# Altium schematic symbol library BKIT4U_LIB.SchLib: 368 symbols (part 2 of 3)
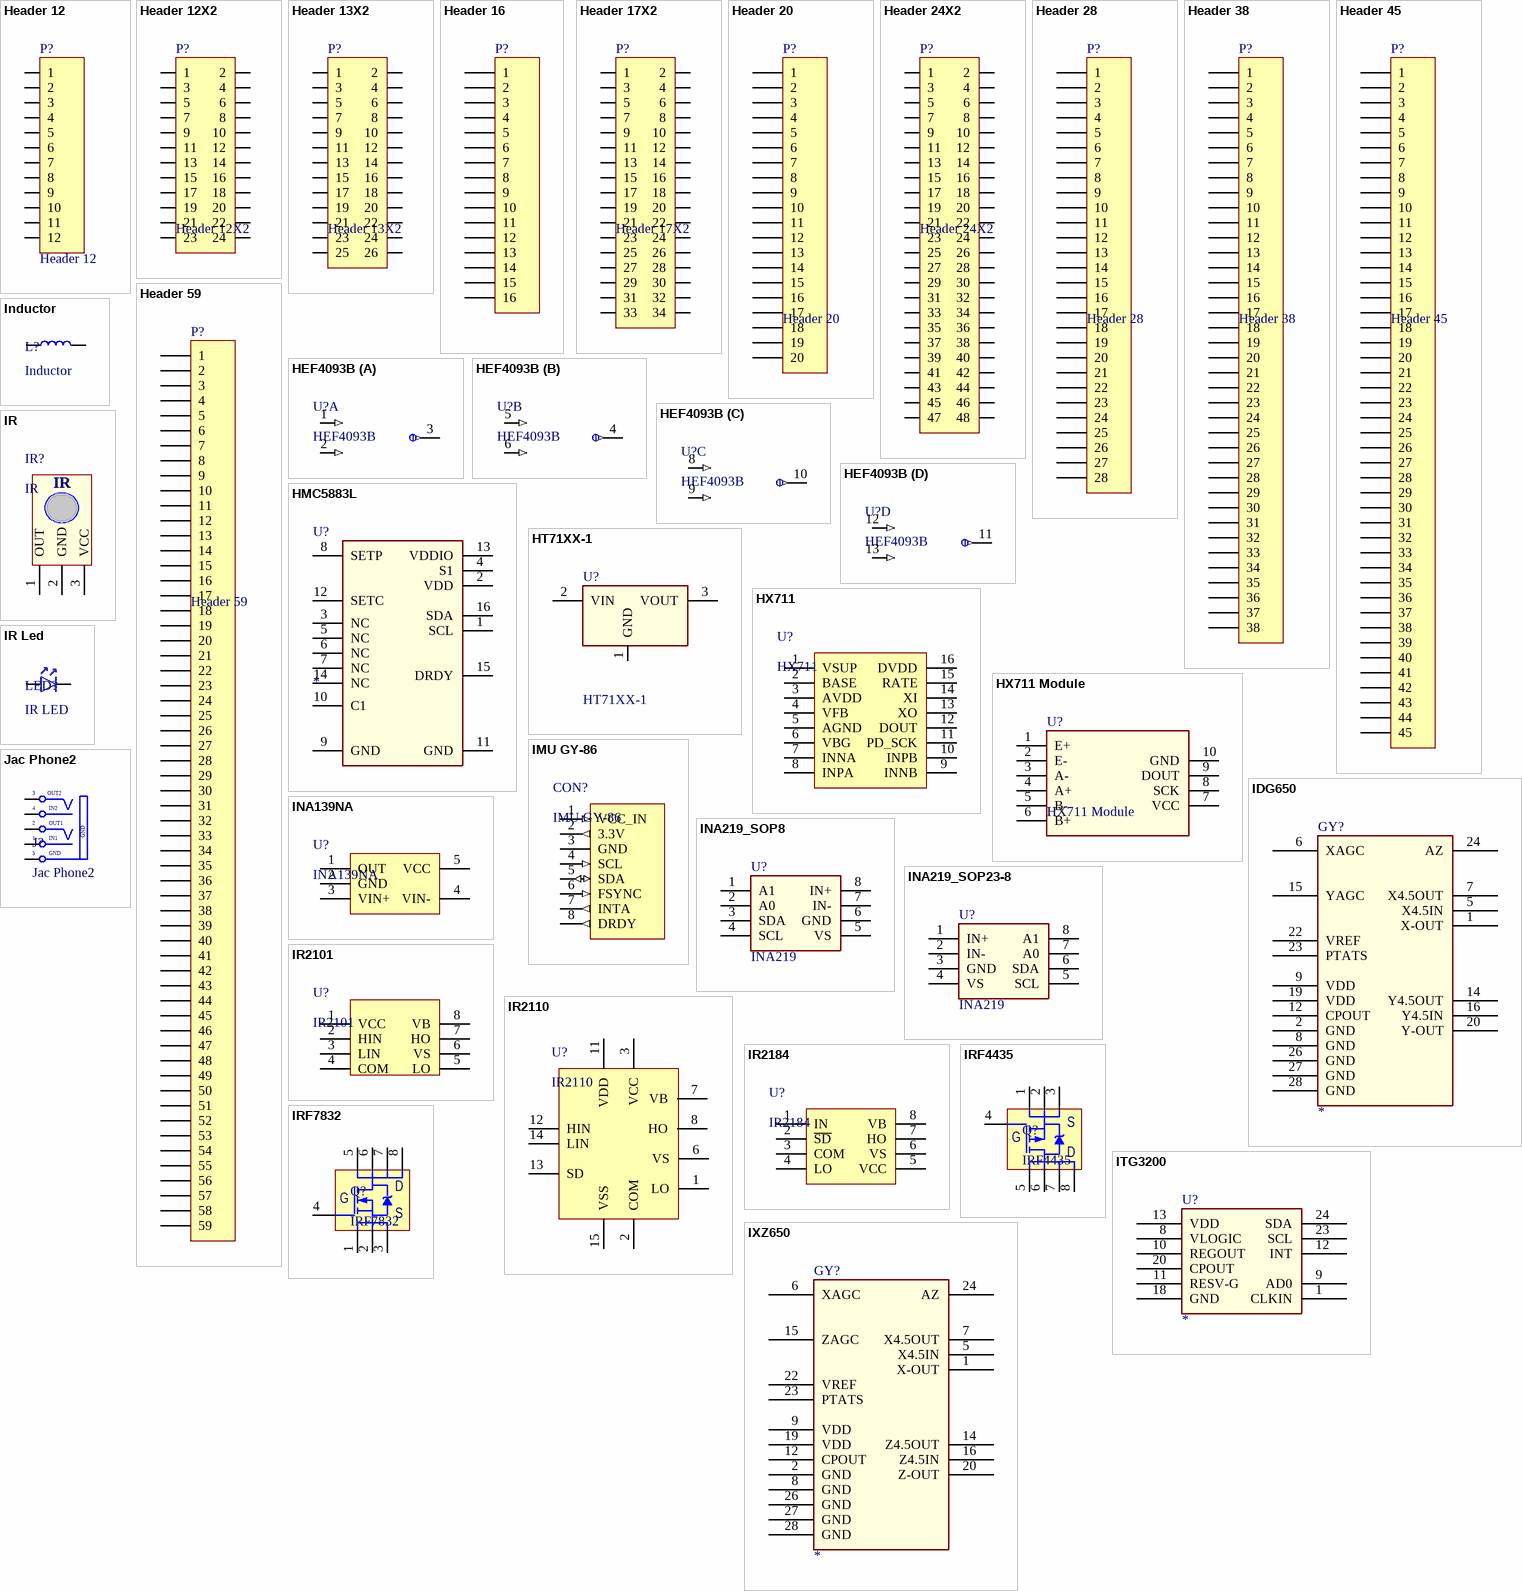
[diagram p18: symbols Header 12 to Jac Phone2]

## IR Led
designator LED?, comment IR LED
Published: 8-Jun-2000; LatestRevisionDate: 17-Jul-2002; LatestRevisionNote: Re-released for DXP Platform.; PackageReference: AXIAL-0.3; Publisher: Altium Limited
footprint LED 3MM
footprint LED 5MM
pins: 1 A, 2 K

## IRF4435
designator Q?
MOSFET P-CHANEL
footprint SOIC-8 (SOIC, 8-Leads, Body 5.0x4.0mm (max), Pitch 1.27mm, IPC Medium Density)
pins: 1 S, 2 S, 3 S, 4 G, 5 D, 6 D, 7 D, 8 D

## IRF7832
designator Q?
MOSFET N-CHANEL
footprint SOIC-8 (SOIC, 8-Leads, Body 5.0x4.0mm (max), Pitch 1.27mm, IPC Medium Density)
pins: 1 S, 2 S, 3 S, 4 G, 5 D, 6 D, 7 D, 8 D

## ITG3200
designator U?
pins: 1 CLKIN, 8 VLOGIC (power), 9 AD0, 10 REGOUT, 11 RESV-G, 12 INT, 13 VDD (power), 18 GND (power), 20 CPOUT, 23 SCL, 24 SDA

## IXZ650
designator GY?
pins: 1 X-OUT, 2 GND (power), 5 X4.5IN, 6 XAGC, 7 X4.5OUT, 8 GND (power), 9 VDD (power), 12 CPOUT, 14 Z4.5OUT, 15 ZAGC, 16 Z4.5IN, 19 VDD (power), 20 Z-OUT, 22 VREF, 23 PTATS, 24 AZ, 26 GND (power), 27 GND (power), 28 GND (power)

## Jac Phone2
designator J?
Jac Phone Stereo; Creat by: VanDungEvn@Gmail.com
footprint JacPhone2 (Jac Phone Stereo)
footprint JAC_PHONE2 (Jac Phone Stereo)
pins: 1 S1 (power) "Sleeve (Ground)", 2 S1 "Tip Normal (Break Contact)", 3 TN "Tip Normal (Break Contact)", 4 S (power) "Sleeve (Ground)", 5 GND "Tip"
text: OUT2; IN2; OUT1; IN1

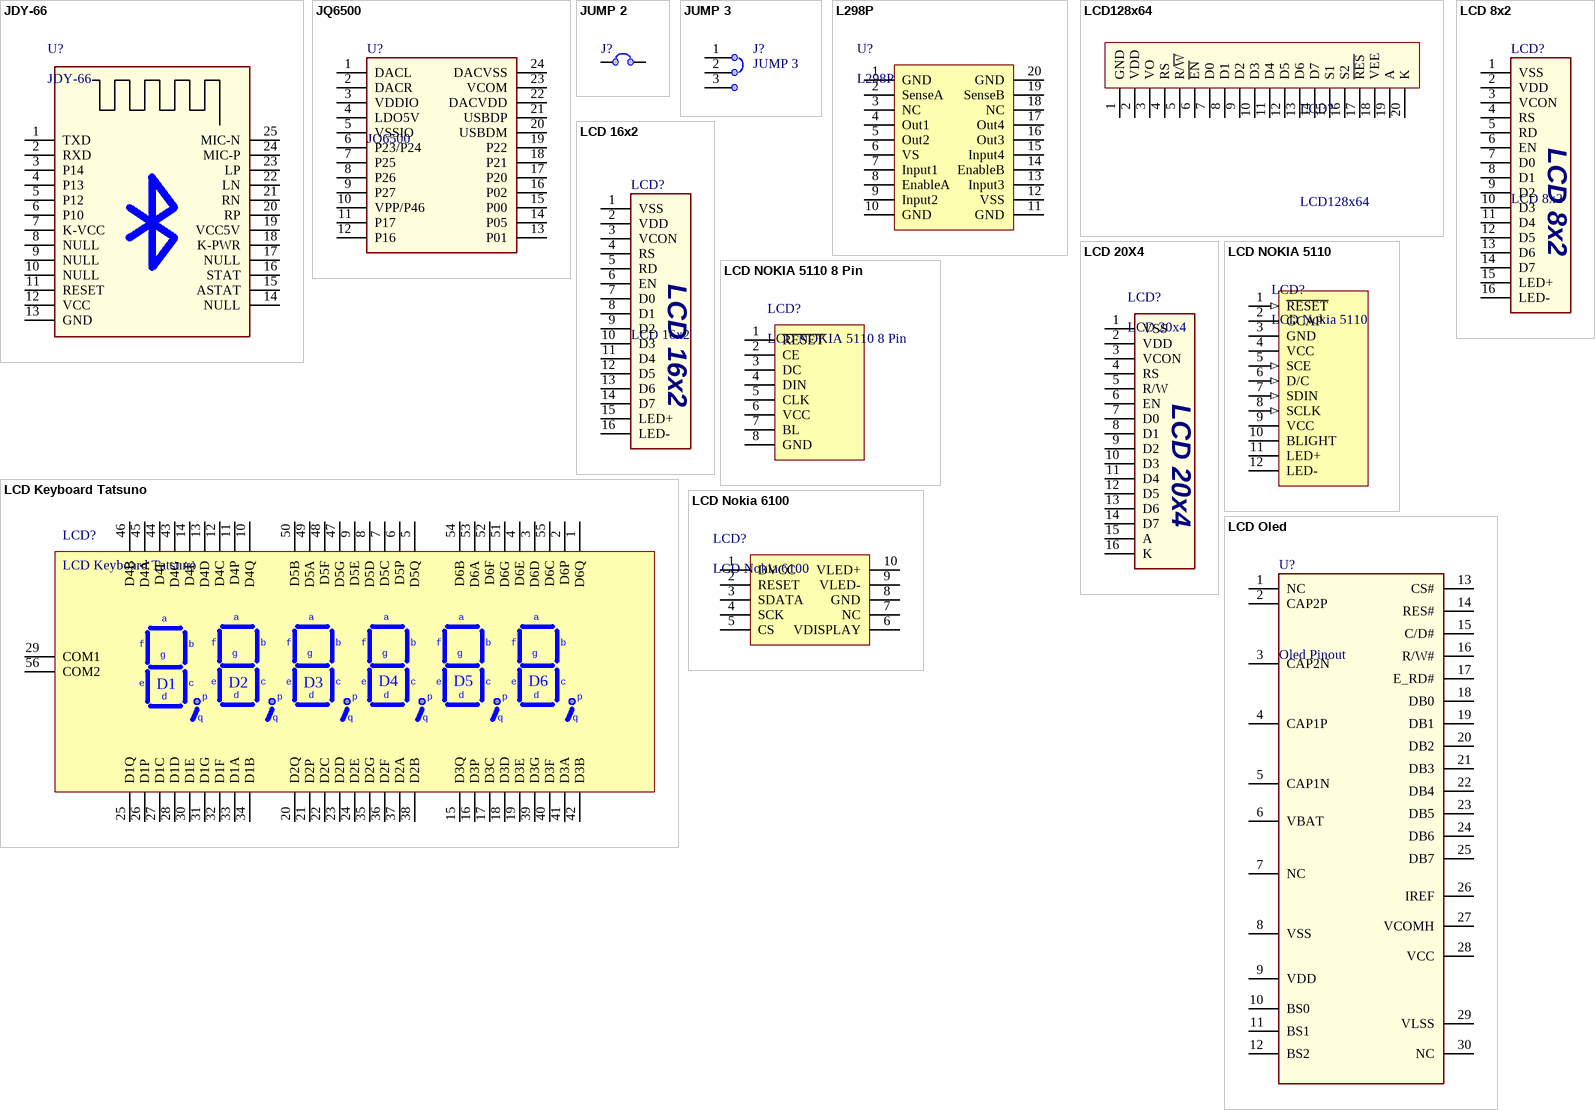
[diagram p6: symbols JDY-66 to LCD Oled]

## JDY-66
designator U?
Audio + digital transmission dual mode Bluetooth module
footprint JDY-66 (Audio + digital transmission dual mode Bluetooth module)
pins: 1 TXD, 2 RXD, 3 P14, 4 P13, 5 P12, 6 P10, 7 K-VCC, 8 NULL, 9 NULL, 10 NULL, 11 RESET, 12 VCC, 13 GND, 14 NULL, 15 ASTAT, 16 STAT, 17 NULL, 18 K-PWR, 19 VCC5V, 20 RP, 21 RN, 22 LN, 23 LP, 24 MIC-P, 25 MIC-N

## JQ6500
designator U?
DSP
footprint SSOP-24
pins: 1 DACL, 2 DACR, 3 VDDIO, 4 LDO5V, 5 VSSIO, 6 P23/P24, 7 P25, 8 P26, 9 P27, 10 VPP/P46, 11 P17, 12 P16, 13 P01, 14 P05, 15 P00, 16 P02, 17 P20, 18 P21, 19 P22, 20 USBDM, 21 USBDP, 22 DACVDD, 23 VCOM, 24 DACVSS

## JUMP 2
designator J?  (value not drawn)
footprint JUMP2 SMD
footprint Header 2
footprint CP (Connecting Plug)
pins: 1, 2

## JUMP 3
designator J?
footprint Header 3
footprint JUMP3 SMD
pins: 1, 2, 3

## L298P
designator U?
Dual Full-Bridge driver
footprint PowerSO20 (SOIC, 20-Leads, Body 16.0x11.1mm (max), Pitch 1.27mm, IPC Low Density)
pins: 1 GND, 2 SenseA, 3 NC, 4 Out1, 5 Out2, 6 VS, 7 Input1, 8 EnableA, 9 Input2, 10 GND, 11 GND, 12 VSS, 13 Input3, 14 EnableB, 15 Input4, 16 Out3, 17 Out4, 18 NC, 19 SenseB, 20 GND

## LCD128x64
designator LCD?
LCD Graphic 128x64; Value: LCD 128x64
footprint LCD128x64
pins: 1 GND, 2 VDD, 3 VO, 4 RS, 5 R/~{W}, 6 ~{EN}, 7 D0, 8 D1, 9 D2, 10 D3, 11 D4, 12 D5, 13 D6, 14 D7, 15 S1, 16 S2, 17 ~{RES}, 18 VEE, 19 A, 20 K

## LCD 8x2
designator LCD?
Character LCD 8x2
footprint LCD 8x2
pins: 1 VSS, 2 VDD, 3 VCON, 4 RS, 5 RD, 6 EN, 7 D0, 8 D1, 9 D2, 10 D3, 11 D4, 12 D5, 13 D6, 14 D7, 15 LED+, 16 LED-

## LCD 16x2
designator LCD?
Character LCD 16x2
footprint LCD 16x2
pins: 1 VSS, 2 VDD, 3 VCON, 4 RS, 5 RD, 6 EN, 7 D0, 8 D1, 9 D2, 10 D3, 11 D4, 12 D5, 13 D6, 14 D7, 15 LED+, 16 LED-

## LCD 20X4
designator LCD?, comment LCD 20x4
footprint LCD 20x4
pins: 1 VSS, 2 VDD, 3 VCON, 4 RS, 5 R/W, 6 EN, 7 D0, 8 D1, 9 D2, 10 D3, 11 D4, 12 D5, 13 D6, 14 D7, 15 A, 16 K

## LCD Keyboard Tatsuno
designator LCD?
footprint LCD 56-PIN
pins: 1 D6Q, 2 D6P, 3 D6D, 4 D6E, 5 D5Q, 6 D5P, 7 D5C, 8 D5D, 9 D5E, 10 D4Q, 11 D4P, 12 D4C, 13 D4D, 14 D4E, 15 D3Q, 16 D3P, 17 D3C, 18 D3D, 19 D3E, 20 D2Q, 21 D2P, 22 D2C, 23 D2D, 24 D2E, 25 D1Q, 26 D1P, 27 D1C, 28 D1D, 29 COM1, 30 D1E, 31 D1G, 32 D1F, 33 D1A, 34 D1B, 35 D2G, 36 D2F, 37 D2A, 38 D2B, 39 D3G, 40 D3F, 41 D3A, 42 D3B, 43 D4G, 44 D4F, 45 D4A, 46 D4B, 47 D5G, 48 D5F, 49 D5A, 50 D5B, 51 D6G, 52 D6F, 53 D6A, 54 D6B, 55 D6C, 56 COM2
text: a; f; b; g; e; c; D1; D2; D3; D4; D5; D6; d; p; q

## LCD NOKIA 5110
designator LCD?, comment LCD Nokia 5110
footprint LCD NOLIA 5110 SMD (BORDER)
footprint LCD NOLIA 5110 DIP (BORDER)
pins: 1 ~{RESET} (in), 2 GCAP, 3 GND, 4 VCC, 5 SCE (in), 6 D/C (in), 7 SDIN (in), 8 SCLK (in), 9 VCC, 10 BLIGHT, 11 LED+, 12 LED-

## LCD NOKIA 5110 8 Pin
designator LCD?
footprint LCD NOLIA 5110 DIP (BORDER)
pins: 1 ~{RESET}, 2 CE, 3 DC, 4 DIN, 5 CLK, 6 VCC, 7 BL, 8 GND

## LCD Nokia 6100
designator LCD?
footprint LCD NOKIA 6100
pins: 1 DVCC, 2 RESET, 3 SDATA, 4 SCK, 5 CS, 6 VDISPLAY, 7 NC, 8 GND, 9 VLED-, 10 VLED+

## LCD Oled
designator U?, comment Oled Pinout
LCD Oled
footprint OLED PINOUT
pins: 1 NC, 2 CAP2P, 3 CAP2N, 4 CAP1P, 5 CAP1N, 6 VBAT, 7 NC, 8 VSS, 9 VDD, 10 BS0, 11 BS1, 12 BS2, 13 CS#, 14 RES#, 15 C/D#, 16 R/W#, 17 E_RD#, 18 DB0, 19 DB1, 20 DB2, 21 DB3, 22 DB4, 23 DB5, 24 DB6, 25 DB7, 26 IREF, 27 VCOMH, 28 VCC, 29 VLSS, 30 NC

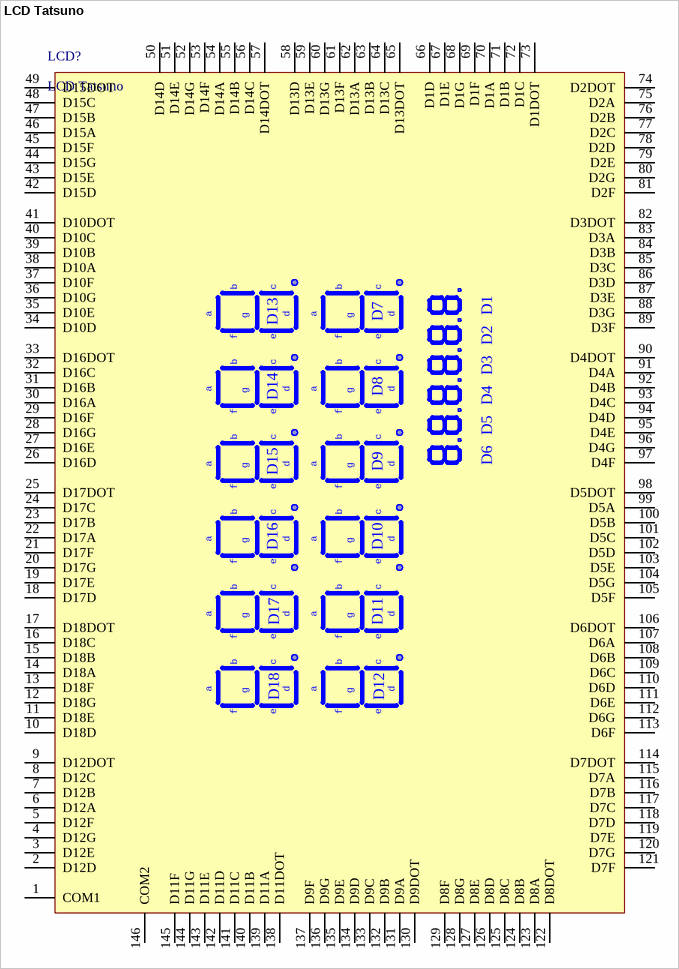
[diagram p7: symbol LCD Tatsuno]

## LCD Tatsuno
designator LCD?
footprint LCD 146-PIN
pins: 1 COM1, 2 D12D, 3 D12E, 4 D12G, 5 D12F, 6 D12A, 7 D12B, 8 D12C, 9 D12DOT, 10 D18D, 11 D18E, 12 D18G, 13 D18F, 14 D18A, 15 D18B, 16 D18C, 17 D18DOT, 18 D17D, 19 D17E, 20 D17G, 21 D17F, 22 D17A, 23 D17B, 24 D17C, 25 D17DOT, 26 D16D, 27 D16E, 28 D16G, 29 D16F, 30 D16A, 31 D16B, 32 D16C, 33 D16DOT, 34 D10D, 35 D10E, 36 D10G, 37 D10F, 38 D10A, 39 D10B, 40 D10C, 41 D10DOT, 42 D15D, 43 D15E, 44 D15G, 45 D15F, 46 D15A, 47 D15B, 48 D15C, 49 D15DOT, 50 D14D, 51 D14E, 52 D14G, 53 D14F, 54 D14A, 55 D14B, 56 D14C, 57 D14DOT, 58 D13D, 59 D13E, 60 D13G, 61 D13F, 62 D13A, 63 D13B, 64 D13C, 65 D13DOT, 66 D1D, 67 D1E, 68 D1G, 69 D1F, 70 D1A, 71 D1B, 72 D1C, 73 D1DOT, 74 D2DOT, 75 D2A, 76 D2B, 77 D2C, 78 D2D, 79 D2E, 80 D2G, 81 D2F, 82 D3DOT, 83 D3A, 84 D3B, 85 D3C, 86 D3D, 87 D3E, 88 D3G, 89 D3F, 90 D4DOT, 91 D4A, 92 D4B, 93 D4C, 94 D4D, 95 D4E, 96 D4G, 97 D4F, 98 D5DOT, 99 D5A, 100 D5B, 101 D5C, 102 D5D, 103 D5E, 104 D5G, 105 D5F, 106 D6DOT, 107 D6A, 108 D6B, 109 D6C, 110 D6D, 111 D6E, 112 D6G, 113 D6F, 114 D7DOT, 115 D7A, 116 D7B, 117 D7C, 118 D7D, 119 D7E, 120 D7G, 121 D7F, 122 D8DOT, 123 D8A, 124 D8B, 125 D8C, 126 D8D, 127 D8E, 128 D8G, 129 D8F, 130 D9DOT, 131 D9A, 132 D9B, 133 D9C, 134 D9D, 135 D9E, 136 D9G, 137 D9F, 138 D11DOT, 139 D11A, 140 D11B, 141 D11C, 142 D11D, 143 D11E, 144 D11G, 145 D11F, 146 COM2
text: b; c; D1; D13; D7; a; g; d; D2; f; e; D3; D14; D8; D4; D5; D6; D15; D9; D16; D10; D17; D11; D18; D12

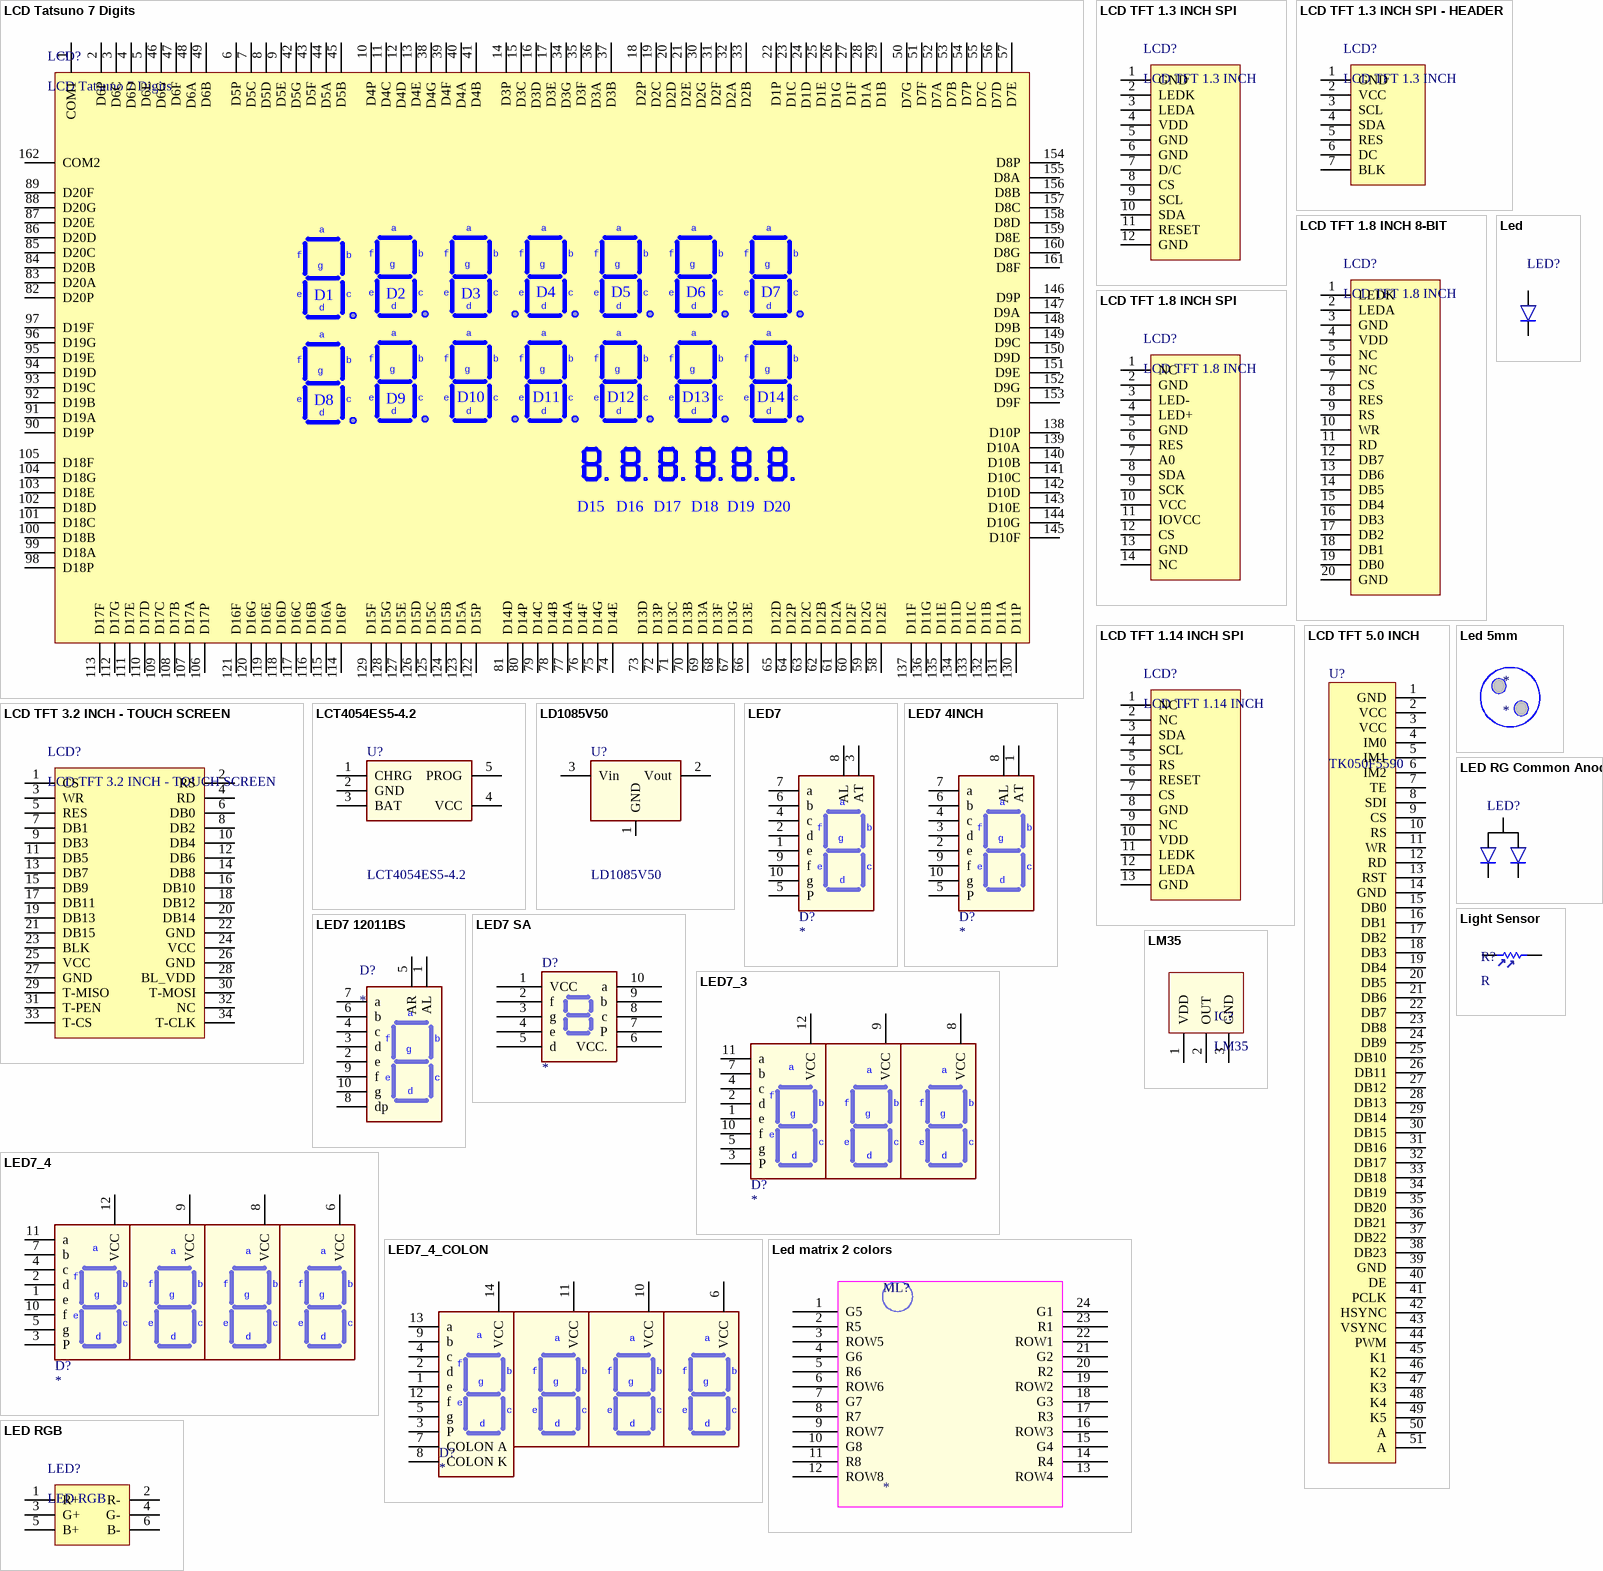
[diagram p8: symbols LCD Tatsuno 7 Digits to LM35]

## LCD Tatsuno 7 Digits
designator LCD?
footprint LCD 162-PIN
pins: 1 COM1, 2 D6P, 3 D6C, 4 D6D, 5 D6E, 6 D5P, 7 D5C, 8 D5D, 9 D5E, 10 D4P, 11 D4C, 12 D4D, 13 D4E, 14 D3P, 15 D3C, 16 D3D, 17 D3E, 18 D2P, 19 D2C, 20 D2D, 21 D2E, 22 D1P, 23 D1C, 24 D1D, 25 D1E, 26 D1G, 27 D1F, 28 D1A, 29 D1B, 30 D2G, 31 D2F, 32 D2A, 33 D2B, 34 D3G, 35 D3F, 36 D3A, 37 D3B, 38 D4G, 39 D4F, 40 D4A, 41 D4B, 42 D5G, 43 D5F, 44 D5A, 45 D5B, 46 D6G, 47 D6F, 48 D6A, 49 D6B, 50 D7G, 51 D7F, 52 D7A, 53 D7B, 54 D7P, 55 D7C, 56 D7D, 57 D7E, 58 D12E, 59 D12G, 60 D12F, 61 D12A, 62 D12B, 63 D12C, 64 D12P, 65 D12D, 66 D13E, 67 D13G, 68 D13F, 69 D13A, 70 D13B, 71 D13C, 72 D13P, 73 D13D, 74 D14E, 75 D14G, 76 D14F, 77 D14A, 78 D14B, 79 D14C, 80 D14P, 81 D14D, 82 D20P, 83 D20A, 84 D20B, 85 D20C, 86 D20D, 87 D20E, 88 D20G, 89 D20F, 90 D19P, 91 D19A, 92 D19B, 93 D19C, 94 D19D, 95 D19E, 96 D19G, 97 D19F, 98 D18P, 99 D18A, 100 D18B, 101 D18C, 102 D18D, 103 D18E, 104 D18G, 105 D18F, 106 D17P, 107 D17A, 108 D17B, 109 D17C, 110 D17D, 111 D17E, 112 D17G, 113 D17F, 114 D16P, 115 D16A, 116 D16B, 117 D16C, 118 D16D, 119 D16E, 120 D16G, 121 D16F, 122 D15P, 123 D15A, 124 D15B, 125 D15C, 126 D15D, 127 D15E, 128 D15G, 129 D15F, 130 D11P, 131 D11A, 132 D11B, 133 D11C, 134 D11D, 135 D11E, 136 D11G, 137 D11F, 138 D10P, 139 D10A, 140 D10B, 141 D10C, 142 D10D, 143 D10E, 144 D10G, 145 D10F, 146 D9P, 147 D9A, 148 D9B, 149 D9C, 150 D9D, 151 D9E, 152 D9G, 153 D9F, 154 D8P, 155 D8A, 156 D8B, 157 D8C, 158 D8D, 159 D8E, 160 D8G, 161 D8F, 162 COM2
text: a; f; b; g; e; c; D1; D2; D3; D4; D5; D6; D7; d; D8; D9; D10; D11; D12; D13; D14; D15; D16; D17; D18; D19; D20

## LCD TFT 1.3 INCH SPI
designator LCD?, comment LCD TFT 1.3 INCH
footprint LCD TFT 1.3 INCH SPI
pins: 1 GND, 2 LEDK, 3 LEDA, 4 VDD, 5 GND, 6 GND, 7 D/C, 8 CS, 9 SCL, 10 SDA, 11 RESET, 12 GND

## LCD TFT 1.3 INCH SPI - HEADER
designator LCD?, comment LCD TFT 1.3 INCH
footprint LCD TFT 1.3 INCH SPI - HEADER
pins: 1 GND, 2 VCC, 3 SCL, 4 SDA, 5 RES, 6 DC, 7 BLK

## LCD TFT 1.8 INCH 8-BIT
designator LCD?, comment LCD TFT 1.8 INCH
footprint LCD TFT 1.8 INCH 8-BIT INTERFACE
pins: 1 LEDK, 2 LEDA, 3 GND, 4 VDD, 5 NC, 6 NC, 7 CS, 8 RES, 9 RS, 10 WR, 11 RD, 12 DB7, 13 DB6, 14 DB5, 15 DB4, 16 DB3, 17 DB2, 18 DB1, 19 DB0, 20 GND

## LCD TFT 1.8 INCH SPI
designator LCD?, comment LCD TFT 1.8 INCH
footprint LCD TFT 1.8 INCH SPI WITH FPC CABLE
footprint LCD TFT 1.8 INCH SPI
pins: 1 NC, 2 GND, 3 LED-, 4 LED+, 5 GND, 6 RES, 7 A0, 8 SDA, 9 SCK, 10 VCC, 11 IOVCC, 12 CS, 13 GND, 14 NC

## LCD TFT 1.14 INCH SPI
designator LCD?, comment LCD TFT 1.14 INCH
footprint LCD TFT 1.14 INCH SPI
pins: 1 NC, 2 NC, 3 SDA, 4 SCL, 5 RS, 6 RESET, 7 CS, 8 GND, 9 NC, 10 VDD, 11 LEDK, 12 LEDA, 13 GND

## LCD TFT 3.2 INCH - TOUCH SCREEN
designator LCD?
footprint LCD TFT 3.2 INCH - TOUCH SCREEN
pins: 1 CS, 2 RS, 3 WR, 4 RD, 5 RES, 6 DB0, 7 DB1, 8 DB2, 9 DB3, 10 DB4, 11 DB5, 12 DB6, 13 DB7, 14 DB8, 15 DB9, 16 DB10, 17 DB11, 18 DB12, 19 DB13, 20 DB14, 21 DB15, 22 GND, 23 BLK, 24 VCC, 25 VCC, 26 GND, 27 GND, 28 BL_VDD, 29 T-MISO, 30 T-MOSI, 31 T-PEN, 32 NC, 33 T-CS, 34 T-CLK

## LCD TFT 5.0 INCH
designator U?, comment TK050F5590
TK050F5590 5inch TFT LCD
footprint FH26W-51S-0.3SHW
pins: 1 GND, 2 VCC, 3 VCC, 4 IM0, 5 IM1, 6 IM2, 7 TE, 8 SDI, 9 CS, 10 RS, 11 WR, 12 RD, 13 RST, 14 GND, 15 DB0, 16 DB1, 17 DB2, 18 DB3, 19 DB4, 20 DB5, 21 DB6, 22 DB7, 23 DB8, 24 DB9, 25 DB10, 26 DB11, 27 DB12, 28 DB13, 29 DB14, 30 DB15, 31 DB16, 32 DB17, 33 DB18, 34 DB19, 35 DB20, 36 DB21, 37 DB22, 38 DB23, 39 GND, 40 DE, 41 PCLK, 42 HSYNC, 43 VSYNC, 44 PWM, 45 K1, 46 K2, 47 K3, 48 K4, 49 K5, 50 A, 51 A

## LCT4054ES5-4.2
designator U?
footprint SOT-23-5 (SOT23, 5-Leads, Body 3.0x3.0mm (max), Pitch 0.95mm, IPC Medium Density)
pins: 1 CHRG, 2 GND, 3 BAT, 4 VCC, 5 PROG

## LD1085V50
designator U?
LDO 3A low drop positive voltage regulator
footprint TO-220
pins: 1 GND, 2 Vout, 3 Vin (power)

## Led
designator LED?
Typical LED
footprint Led SMD 0805 (Molded Diode, 2-Leads, Body 2.0x1.3mm, IPC Medium Density)
footprint LED 5MM
footprint LED 3MM
footprint Led SMD 0603
pins: 1 A, 2 K

## LED7
designator D?
footprint LED7 CA
pins: 1 e, 2 d, 3 AT, 4 c, 5 P, 6 b, 7 a, 8 AL, 9 f, 10 g

## LED7 4INCH
designator D?
footprint LED7 4INCH (Footprint not found)
pins: 1 AT, 2 e, 3 d, 4 c, 5 P, 6 b, 7 a, 8 AL, 9 f, 10 g

## LED7 12011BS
designator D?
footprint LED7 GNS-12011
pins: 1 AL, 2 e, 3 d, 4 c, 5 AR, 6 b, 7 a, 8 dp, 9 f, 10 g

## LED7 SA
designator D?
pins: 1 VCC, 2 f, 3 g, 4 e, 5 d, 6 VCC., 7 P, 8 c, 9 b, 10 a

## LED7_3
designator D?
footprint LED7_3 CA 0.56
footprint LED7_3 CA 0.36
pins: 1 e, 2 d, 3 P, 4 c, 5 g, 7 b, 8 VCC, 9 VCC, 10 f, 11 a, 12 VCC

## LED7_4
designator D?
footprint LED7_4 CA
pins: 1 e, 2 d, 3 P, 4 c, 5 g, 6 VCC, 7 b, 8 VCC, 9 VCC, 10 f, 11 a, 12 VCC

## LED7_4_COLON
designator D?
footprint LED7_4 CA - COLON
pins: 1 e, 2 d, 3 P, 4 c, 5 g, 6 VCC, 7 COLON A, 8 COLON K, 9 b, 10 VCC, 11 VCC, 12 f, 13 a, 14 VCC

## Led 5mm
designator *

## Led matrix 2 colors
designator ML?
pins: 1 G5, 2 R5, 3 ROW5, 4 G6, 5 R6, 6 ROW6, 7 G7, 8 R7, 9 ROW7, 10 G8, 11 R8, 12 ROW8, 13 ROW4, 14 R4, 15 G4, 16 ROW3, 17 R3, 18 G3, 19 ROW2, 20 R2, 21 G2, 22 ROW1, 23 R1, 24 G1

## LED RG Common Anode
designator LED?
Typical LED
footprint LED RG 3MM
pins: 1 RED, 2 Common, 3 Green

## LED RGB
designator LED?
footprint LED SMD 5050
pins: 1 R+, 2 R-, 3 G+, 4 G-, 5 B+, 6 B-

## Light Sensor
designator R?, comment R
Resistor; Published: 8-Jun-2000; LatestRevisionDate: 17-Jul-2002; LatestRevisionNote: Re-released for DXP Platform.; PackageReference: AXIAL-0.3; Publisher: Altium Limited
footprint R PHOTO LARGE
footprint R PHOTO SMALL
pins: 1, 2

## LM35
designator IC?
High Precision  1-Wire® Digital Thermometer
footprint TO-92
pins: 1 VDD, 2 OUT, 3 GND

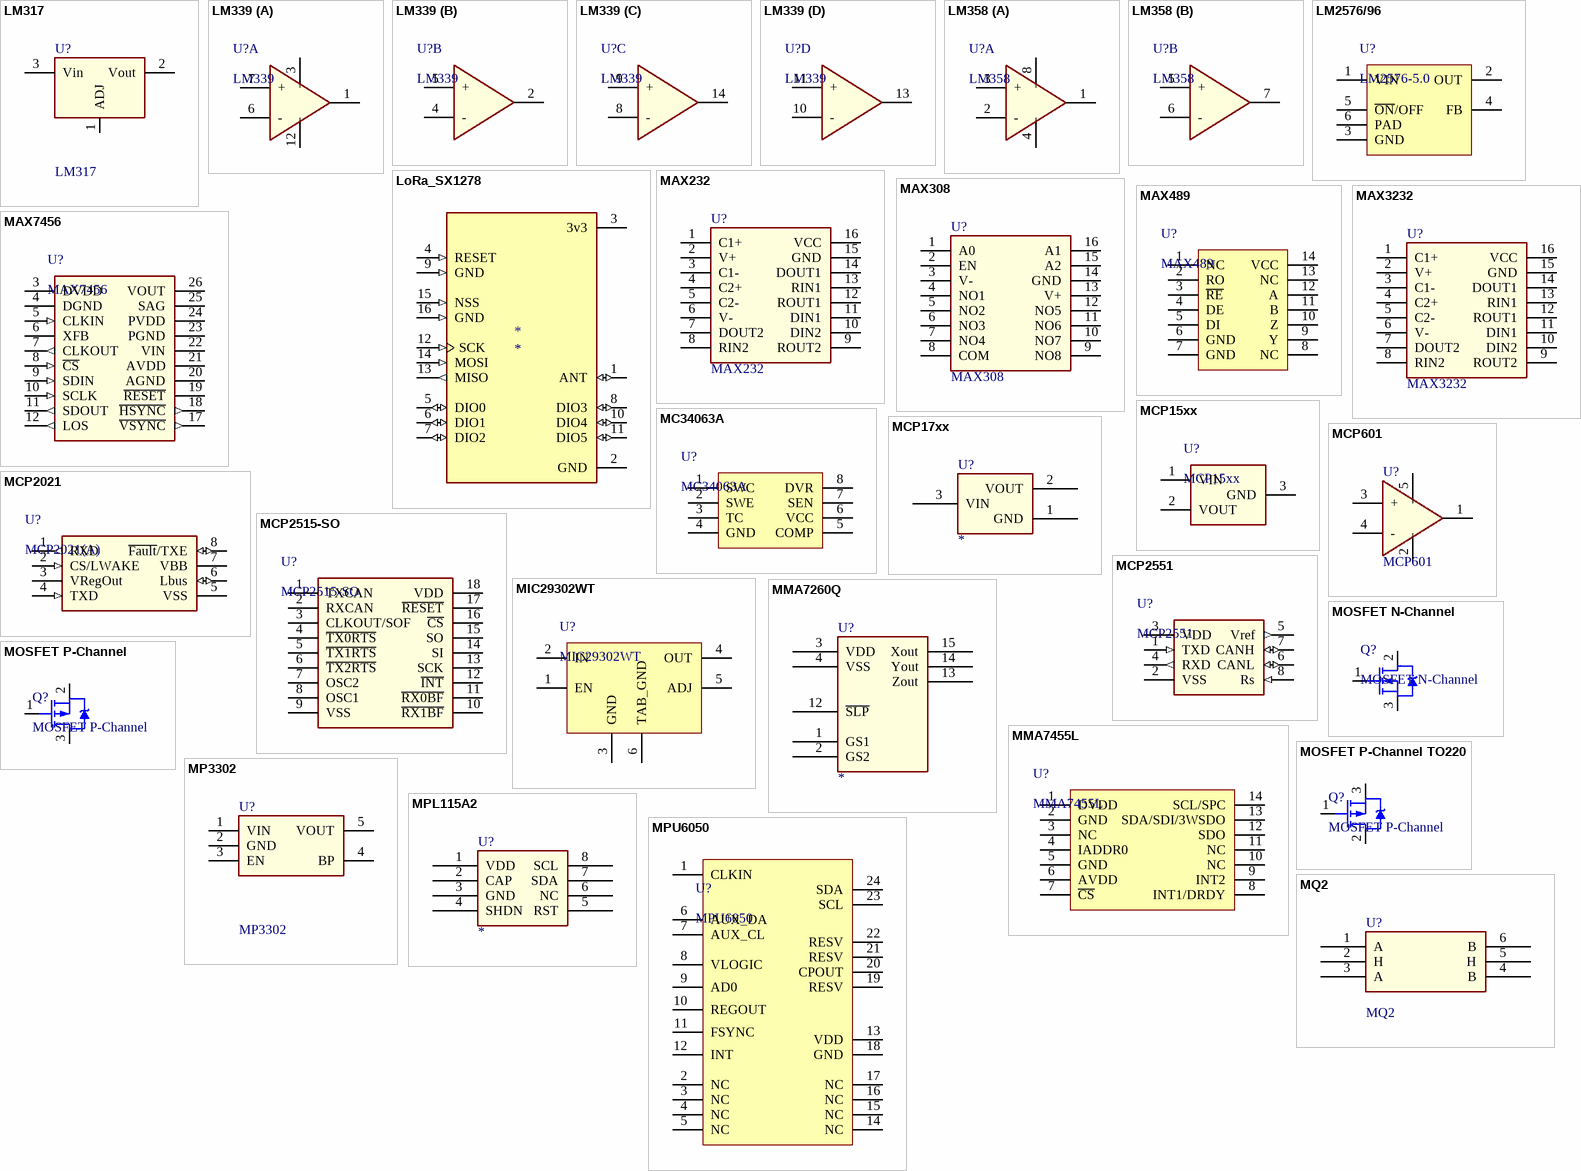
[diagram p9: symbols LM317 to MQ2]

## LM317
designator U?
LDO Fixed Voltage regulator
footprint TO-92
footprint TO-220
footprint TO-252 (DPAK) (D-PAK, 3-Pads, Body 6.2x6.7mm (max), IPC Medium Density)
pins: 1 ADJ, 2 Vout, 3 Vin (power)

## LM339
designator U?
Low Power Dual Operational Amplifiers
footprint DIP 14
footprint SOIC-14 (SOIC, 14-Leads, Body 8.6x3.9mm (max), Pitch 1.27mm, IPC Medium Density)
part A pins: 1 Out1, 3 VCC, 6 -, 7 +, 12 GND
part B pins: 2 Out2, 4 -, 5 +
part C pins: 8 -, 9 +, 14 Out3
part D pins: 10 -, 11 +, 13 Out3

## LM358
designator U?
Low Power Dual Operational Amplifiers
footprint DIP 8 (DIP IC (2.54mm), 8 pins)
footprint SOIC-8 (SOIC, 8-Leads, Body 5.0x4.0mm (max), Pitch 1.27mm, IPC Medium Density)
part A pins: 1 OutA, 2 -, 3 +, 4 GND, 8 VCC
part B pins: 5 +, 6 -, 7 OutA

## LM2576/96
designator U?, comment LM2576-5.0
SIMPLE SWITCHER® 3A Step-Down Voltage Regulator
footprint TO-263-5 (D2-PAK, 6-Pads, Body 8.9x10.4mm (max), IPC Medium Density)
pins: 1 VIN, 2 OUT, 3 GND, 4 FB, 5 ~{ON}/OFF, 6 GND hidden to GND, 6 PAD

## LoRa_SX1278
designator *
footprint SMD16 (LoRa Ra-02 module)
pins: 1 ANT (io), 2 GND (power), 3 3v3 (power), 4 RESET (in), 5 DIO0 (io), 6 DIO1 (io), 7 DIO2 (io), 8 DIO3 (io), 9 GND (in), 10 DIO4 (io), 11 DIO5 (io), 12 SCK (in), 13 MISO (out), 14 MOSI (in), 15 NSS (in), 16 GND (in)

## MAX232
designator U?
RS-232 Line Driver/Receiver
footprint SOIC-16 (SOIC, 16-Leads, Body 10.0x4.0mm (max), Pitch 1.27mm, IPC Medium Density)
pins: 1 C1+, 2 V+, 3 C1-, 4 C2+, 5 C2-, 6 V-, 7 DOUT2, 8 RIN2, 9 ROUT2, 10 DIN2, 11 DIN1, 12 ROUT1, 13 RIN1, 14 DOUT1, 15 GND, 16 VCC

## MAX308
designator U?
8 Channels CMOS Analog Multiplexers
footprint DIP 16
pins: 1 A0, 2 EN, 3 V-, 4 NO1, 5 NO2, 6 NO3, 7 NO4, 8 COM, 9 NO8, 10 NO7, 11 NO6, 12 NO5, 13 V+, 14 GND, 15 A2, 16 A1

## MAX489
designator U?
Hex inverter
footprint SOIC-14 (SOIC, 14-Leads, Body 8.6x3.9mm (max), Pitch 1.27mm, IPC Medium Density)
pins: 1 NC, 2 RO, 3 ~{RE}, 4 DE, 5 DI, 6 GND, 7 GND, 8 NC, 9 Y, 10 Z, 11 B, 12 A, 13 NC, 14 VCC

## MAX3232
designator U?
3.0V to 5.5V, Low-Power, Up to 1Mbps, / True RS-232 Transceivers
footprint SOIC-16 (SOIC, 16-Leads, Body 10.0x4.0mm (max), Pitch 1.27mm, IPC Medium Density)
pins: 1 C1+, 2 V+, 3 C1-, 4 C2+, 5 C2-, 6 V-, 7 DOUT2, 8 RIN2, 9 ROUT2, 10 DIN2, 11 DIN1, 12 ROUT1, 13 RIN1, 14 DOUT1, 15 GND, 16 VCC

## MAX7456
designator U?
MAXIM's single-channel monochrome On-Screen Display with integrated EEPROM
footprint TSSOP 28 65P EP (TSOP, 28-Leads, Body 9.8x4.5mm (max), Pitch 0.65mm, IPC Medium Density)
pins: 1 NC hidden, 2 NC hidden, 3 DVDD (power), 4 DGND (power), 5 CLKIN (in), 6 XFB, 7 CLKOUT (out), 8 ~{CS} (in), 9 SDIN (in), 10 SCLK (in), 11 SDOUT (out), 12 LOS (out), 13 NC hidden, 13 NC hidden, 14 NC hidden, 14 NC hidden, 15 NC hidden, 15 NC hidden, 16 NC hidden, 16 NC hidden, 17 ~{VSYNC} (out), 18 ~{HSYNC} (out), 19 ~{RESET}, 20 AGND (power), 21 AVDD (power), 22 VIN (power), 23 PGND (power), 24 PVDD (power), 25 SAG, 26 VOUT, 27 NC hidden, 28 NC hidden

## MC34063A
designator U?
1.5A peak Boost/Buck/Inverting switching regulator
footprint SOIC-8 (SOIC, 8-Leads, Body 5.0x4.0mm (max), Pitch 1.27mm, IPC Medium Density)
pins: 1 SWC, 2 SWE, 3 TC, 4 GND, 5 COMP, 6 VCC, 7 SEN, 8 DVR

## MCP15xx
designator U?
footprint SOT-23 (SOT23, 3-Leads, Body 3.0x2.5mm (max), Pitch 0.95mm, IPC Medium Density)
pins: 1 VIN (power), 2 VOUT (power), 3 GND (power)

## MCP17xx
designator U?
footprint SOT-23 (SOT23, 3-Leads, Body 3.0x2.5mm (max), Pitch 0.95mm, IPC Medium Density)
pins: 1 GND (power), 2 VOUT (power), 3 VIN (power)

## MCP601
designator U?
2.7V to 6.0V Single Supply CMOS Op Amps
footprint SOT-23-5 (SOT23, 5-Leads, Body 3.0x3.0mm (max), Pitch 0.95mm, IPC Medium Density)
pins: 1 OutA, 2 GND, 3 +, 4 -, 5 VCC

## MCP2021
designator U?, comment MCP2021(A)
LIN Transceiver with Voltage Regulator
footprint SOIC-8 (SOIC, 8-Leads, Body 5.0x4.0mm (max), Pitch 1.27mm, IPC Medium Density)
pins: 1 RXD (out), 2 CS/LWAKE (in), 3 VRegOut (power), 4 TXD (in), 5 VSS (power), 6 Lbus (io), 7 VBB (power), 8 ~{Fault}/TXE (io)

## MCP2515-SO
designator U?
Stand-Alone CAN Controller with SPI Interface
footprint SOIC-20 (SOIC, 20-Leads, Body 12.8x7.5mm (max), Pitch 1.27mm, IPC Medium Density)
pins: 1 TXCAN, 2 RXCAN, 3 CLKOUT/SOF, 4 ~{TX0RTS}, 5 ~{TX1RTS}, 6 ~{TX2RTS}, 7 OSC2, 8 OSC1, 9 VSS, 10 ~{RX1BF}, 11 ~{RX0BF}, 12 ~{INT}, 13 SCK, 14 SI, 15 SO, 16 ~{CS}, 17 ~{RESET}, 18 VDD

## MCP2551
designator U?
High-Speed CANTransceiver
footprint SOIC-8 (SOIC, 8-Leads, Body 5.0x4.0mm (max), Pitch 1.27mm, IPC Medium Density)
footprint DIP 8 (DIP IC (2.54mm), 8 pins)
pins: 1 TXD (in), 2 VSS (power), 3 VDD (power), 4 RXD (out), 5 Vref (out), 6 CANL (io), 7 CANH (io), 8 Rs (in)

## MIC29302WT
designator U?
3.0A LDO Regulator with ADJ. voltage output
footprint TO-263-5 (D2-PAK, 6-Pads, Body 8.9x10.4mm (max), IPC Medium Density)
pins: 1 EN, 2 IN, 3 GND, 4 OUT, 5 ADJ, 6 TAB_GND

## MMA7260Q
designator U?
pins: 1 GS1, 2 GS2, 3 VDD (power), 4 VSS (power), 12 ~{SLP}, 13 Zout, 14 Yout, 15 Xout

## MMA7455L
designator U?
±2g/±4g/±8g Three Axis Low-g Digital Output Accelerometer
footprint LGA-14 (LCC, 14-Pins, Body 3.0x5.0mm (max), Pitch 0.80mm, IPC Medium Density)
pins: 1 DVDD, 2 GND, 3 NC, 4 IADDR0, 5 GND, 6 AVDD, 7 ~{CS}, 8 INT1/DRDY, 9 INT2, 10 NC, 11 NC, 12 SDO, 13 SDA/SDI/3WSDO, 14 SCL/SPC

## MOSFET N-Channel
designator Q?
footprint SOT-23 (SOT23, 3-Leads, Body 3.0x2.5mm (max), Pitch 0.95mm, IPC Medium Density)
footprint TO-220
footprint SOIC-8 (SOIC, 8-Leads, Body 5.0x4.0mm (max), Pitch 1.27mm, IPC Medium Density); pin to pad 1>4 3>5+6+7+8
footprint TO-220/HeatSink
footprint TO-252 (DPAK) (D-PAK, 3-Pads, Body 6.2x6.7mm (max), IPC Medium Density)
footprint TO-263 (D2PAK)
pins: 1 G, 2 D, 3 S

## MOSFET P-Channel
designator Q?
footprint TO-220; pin to pad 2>3 3>2
footprint TO-220/HeatSink; pin to pad 2>3 3>2
footprint SOIC-8 (SOIC, 8-Leads, Body 5.0x4.0mm (max), Pitch 1.27mm, IPC Medium Density); pin to pad 1>4 2>1+2+3 3>5+6+7+8
footprint TO-252 (DPAK) (D-PAK, 3-Pads, Body 6.2x6.7mm (max), IPC Medium Density); pin to pad 2>3 3>2
footprint TO-263 (D2PAK); pin to pad 2>3 3>2
footprint SOT-23 (SOT23, 3-Leads, Body 3.0x2.5mm (max), Pitch 0.95mm, IPC Medium Density)
pins: 1 G, 2 S, 3 D

## MOSFET P-Channel TO220
designator Q?, comment MOSFET P-Channel
MOSFET P-Channel  TO220
footprint TO-220
footprint TO-220/HeatSink
pins: 1 G, 2 D, 3 S

## MP3302
designator U?
Power LED driver
footprint SOT-23-5 (SOT23, 5-Leads, Body 3.0x3.0mm (max), Pitch 0.95mm, IPC Medium Density)
pins: 1 VIN (power), 2 GND, 3 EN, 4 BP, 5 VOUT

## MPL115A2
designator U?
pins: 1 VDD, 2 CAP, 3 GND, 4 SHDN, 5 RST, 6 NC, 7 SDA, 8 SCL

## MPU6050
designator U?
footprint QFN 24-LEAD PLASTIC
pins: 1 CLKIN, 2 NC, 3 NC, 4 NC, 5 NC, 6 AUX_DA, 7 AUX_CL, 8 VLOGIC, 9 AD0, 10 REGOUT, 11 FSYNC, 12 INT, 13 VDD, 14 NC, 15 NC, 16 NC, 17 NC, 18 GND, 19 RESV, 20 CPOUT, 21 RESV, 22 RESV, 23 SCL, 24 SDA

## MQ2
designator U?
footprint MQ-6
pins: 1 A, 2 H, 3 A, 4 B, 5 H, 6 B

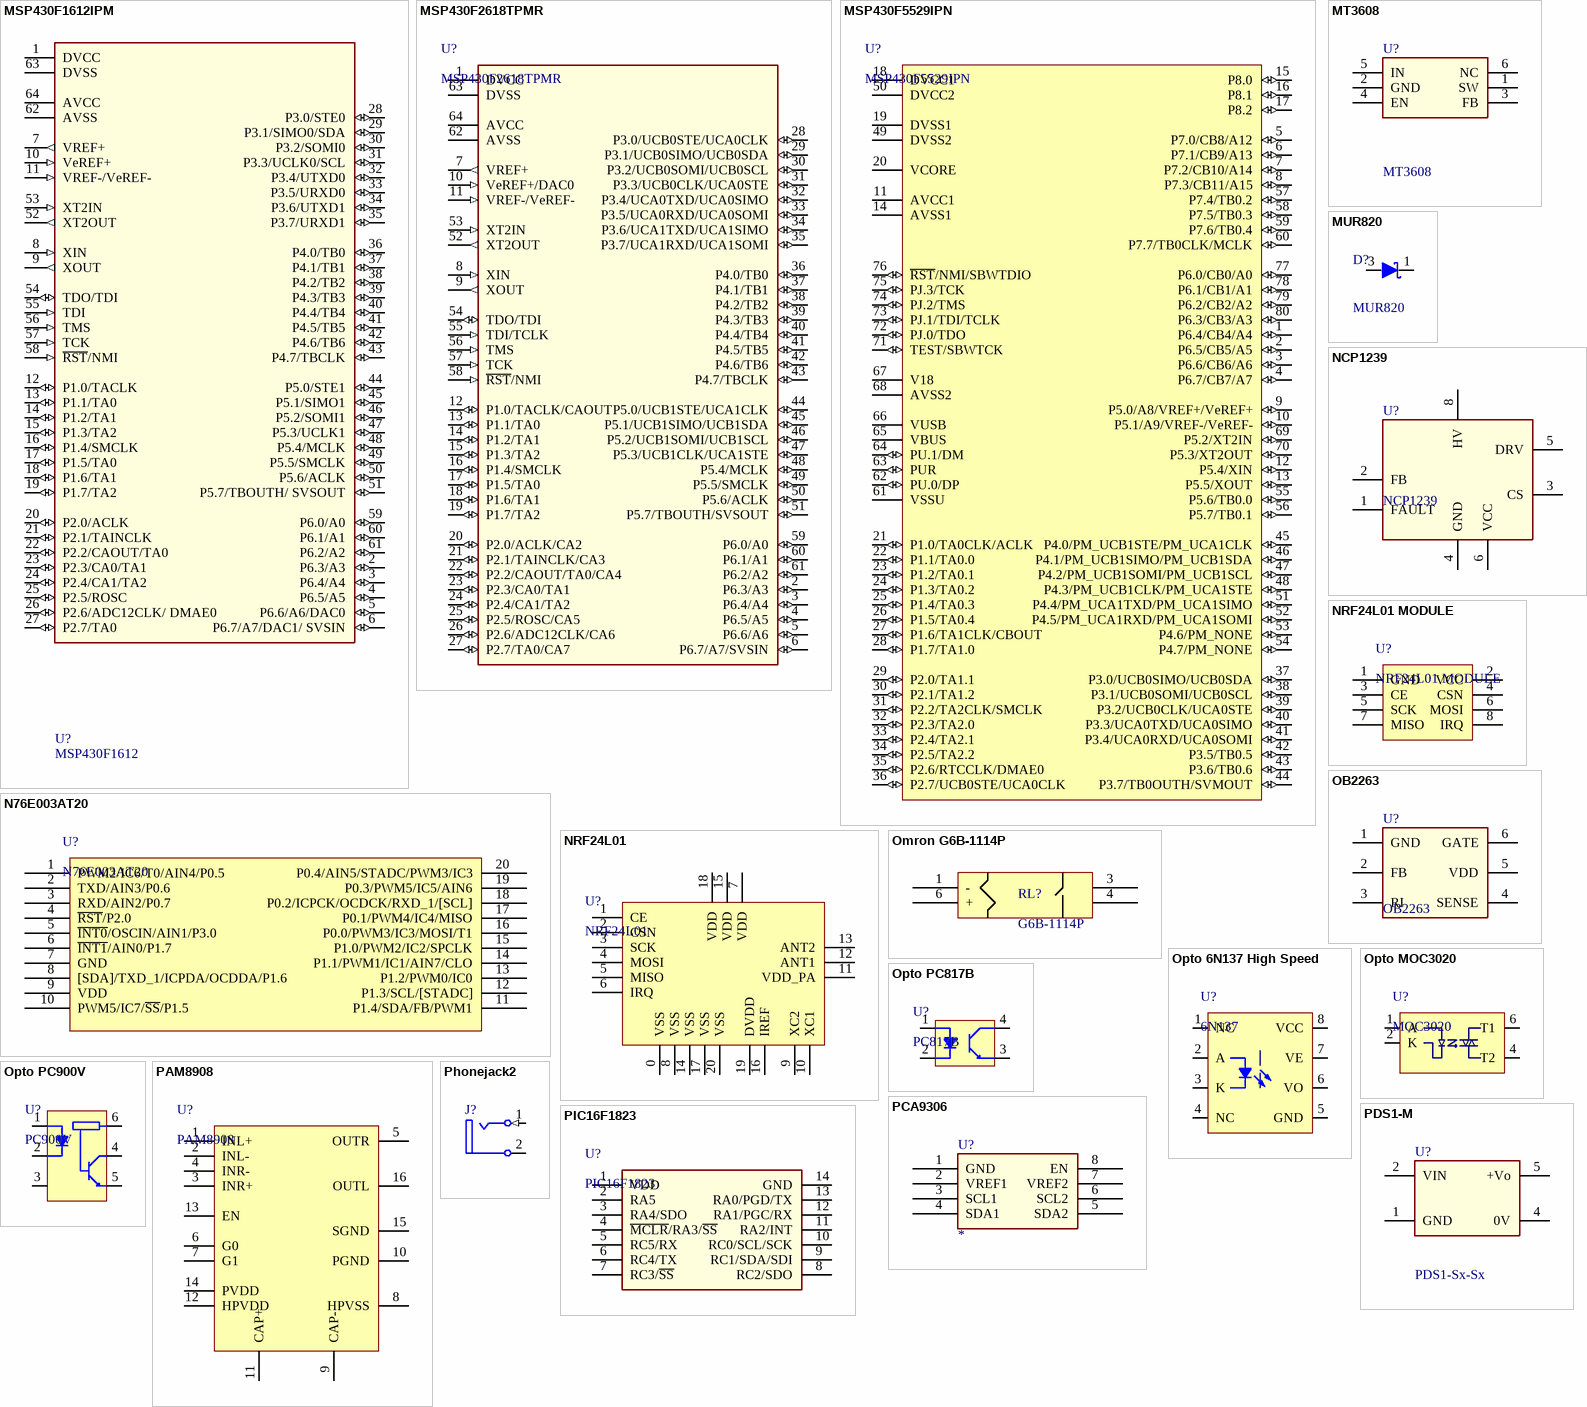
[diagram p10: symbols MSP430F1612IPM to PIC16F1823]

## MSP430F1612IPM
designator U?, comment MSP430F1612
footprint QFP 50P 64 (TSQFP, 64-Leads, Body 12.0x12.0mm (max), Pitch 0.50mm, IPC Medium Density)
pins: 1 DVCC (power), 2 P6.3/A3 (io), 3 P6.4/A4 (io), 4 P6.5/A5 (io), 5 P6.6/A6/DAC0 (io), 6 P6.7/A7/DAC1/ SVSIN (io), 7 VREF+ (out), 8 XIN (in), 9 XOUT (out), 10 VeREF+ (in), 11 VREF-/VeREF- (in), 12 P1.0/TACLK (io), 13 P1.1/TA0 (io), 14 P1.2/TA1 (io), 15 P1.3/TA2 (io), 16 P1.4/SMCLK (io), 17 P1.5/TA0 (io), 18 P1.6/TA1 (io), 19 P1.7/TA2 (io), 20 P2.0/ACLK (io), 21 P2.1/TAINCLK (io), 22 P2.2/CAOUT/TA0 (io), 23 P2.3/CA0/TA1 (io), 24 P2.4/CA1/TA2 (io), 25 P2.5/ROSC (io), 26 P2.6/ADC12CLK/ DMAE0 (io), 27 P2.7/TA0 (io), 28 P3.0/STE0 (io), 29 P3.1/SIMO0/SDA (io), 30 P3.2/SOMI0 (io), 31 P3.3/UCLK0/SCL (io), 32 P3.4/UTXD0 (io), 33 P3.5/URXD0 (io), 34 P3.6/UTXD1 (io), 35 P3.7/URXD1 (io), 36 P4.0/TB0 (io), 37 P4.1/TB1 (io), 38 P4.2/TB2 (io), 39 P4.3/TB3 (io), 40 P4.4/TB4 (io), 41 P4.5/TB5 (io), 42 P4.6/TB6 (io), 43 P4.7/TBCLK (io), 44 P5.0/STE1 (io), 45 P5.1/SIMO1 (io), 46 P5.2/SOMI1 (io), 47 P5.3/UCLK1 (io), 48 P5.4/MCLK (io), 49 P5.5/SMCLK (io), 50 P5.6/ACLK (io), 51 P5.7/TBOUTH/ SVSOUT (io), 52 XT2OUT (out), 53 XT2IN (in), 54 TDO/TDI (io), 55 TDI (in), 56 TMS (in), 57 TCK (in), 58 ~{RST}/NMI (in), 59 P6.0/A0 (io), 60 P6.1/A1 (io), 61 P6.2/A2 (io), 62 AVSS (power), 63 DVSS (power), 64 AVCC (power)

## MSP430F2618TPMR
designator U?
footprint QFP 50P 64 (TSQFP, 64-Leads, Body 12.0x12.0mm (max), Pitch 0.50mm, IPC Medium Density)
pins: 1 DVCC (power), 2 P6.3/A3 (io), 3 P6.4/A4 (io), 4 P6.5/A5 (io), 5 P6.6/A6 (io), 6 P6.7/A7/SVSIN (io), 7 VREF+ (out), 8 XIN (in), 9 XOUT (out), 10 VeREF+/DAC0 (in), 11 VREF-/VeREF- (in), 12 P1.0/TACLK/CAOUT (io), 13 P1.1/TA0 (io), 14 P1.2/TA1 (io), 15 P1.3/TA2 (io), 16 P1.4/SMCLK (io), 17 P1.5/TA0 (io), 18 P1.6/TA1 (io), 19 P1.7/TA2 (io), 20 P2.0/ACLK/CA2 (io), 21 P2.1/TAINCLK/CA3 (io), 22 P2.2/CAOUT/TA0/CA4 (io), 23 P2.3/CA0/TA1 (io), 24 P2.4/CA1/TA2 (io), 25 P2.5/ROSC/CA5 (io), 26 P2.6/ADC12CLK/CA6 (io), 27 P2.7/TA0/CA7 (io), 28 P3.0/UCB0STE/UCA0CLK (io), 29 P3.1/UCB0SIMO/UCB0SDA (io), 30 P3.2/UCB0SOMI/UCB0SCL (io), 31 P3.3/UCB0CLK/UCA0STE (io), 32 P3.4/UCA0TXD/UCA0SIMO (io), 33 P3.5/UCA0RXD/UCA0SOMI (io), 34 P3.6/UCA1TXD/UCA1SIMO (io), 35 P3.7/UCA1RXD/UCA1SOMI (io), 36 P4.0/TB0 (io), 37 P4.1/TB1 (io), 38 P4.2/TB2 (io), 39 P4.3/TB3 (io), 40 P4.4/TB4 (io), 41 P4.5/TB5 (io), 42 P4.6/TB6 (io), 43 P4.7/TBCLK (io), 44 P5.0/UCB1STE/UCA1CLK (io), 45 P5.1/UCB1SIMO/UCB1SDA (io), 46 P5.2/UCB1SOMI/UCB1SCL (io), 47 P5.3/UCB1CLK/UCA1STE (io), 48 P5.4/MCLK (io), 49 P5.5/SMCLK (io), 50 P5.6/ACLK (io), 51 P5.7/TBOUTH/SVSOUT (io), 52 XT2OUT (out), 53 XT2IN (in), 54 TDO/TDI (io), 55 TDI/TCLK (in), 56 TMS (in), 57 TCK (in), 58 ~{RST}/NMI (in), 59 P6.0/A0 (io), 60 P6.1/A1 (io), 61 P6.2/A2 (io), 62 AVSS (power), 63 DVSS (power), 64 AVCC (power)

## MSP430F5529IPN
designator U?
footprint QFP 50P 80 (TSQFP, 80-Leads, Body 14.2x14.2mm (max), Pitch 0.50mm, IPC Medium Density)
pins: 1 P6.4/CB4/A4 (io), 2 P6.5/CB5/A5 (io), 3 P6.6/CB6/A6 (io), 4 P6.7/CB7/A7 (io), 5 P7.0/CB8/A12 (io), 6 P7.1/CB9/A13 (io), 7 P7.2/CB10/A14 (io), 8 P7.3/CB11/A15 (io), 9 P5.0/A8/VREF+/VeREF+ (io), 10 P5.1/A9/VREF-/VeREF- (io), 11 AVCC1 (power), 12 P5.4/XIN (io), 13 P5.5/XOUT (io), 14 AVSS1 (power), 15 P8.0 (io), 16 P8.1 (io), 17 P8.2 (io), 18 DVCC1 (power), 19 DVSS1 (power), 20 VCORE (power), 21 P1.0/TA0CLK/ACLK (io), 22 P1.1/TA0.0 (io), 23 P1.2/TA0.1 (io), 24 P1.3/TA0.2 (io), 25 P1.4/TA0.3 (io), 26 P1.5/TA0.4 (io), 27 P1.6/TA1CLK/CBOUT (io), 28 P1.7/TA1.0 (io), 29 P2.0/TA1.1 (io), 30 P2.1/TA1.2 (io), 31 P2.2/TA2CLK/SMCLK (io), 32 P2.3/TA2.0 (io), 33 P2.4/TA2.1 (io), 34 P2.5/TA2.2 (io), 35 P2.6/RTCCLK/DMAE0 (io), 36 P2.7/UCB0STE/UCA0CLK (io), 37 P3.0/UCB0SIMO/UCB0SDA (io), 38 P3.1/UCB0SOMI/UCB0SCL (io), 39 P3.2/UCB0CLK/UCA0STE (io), 40 P3.3/UCA0TXD/UCA0SIMO (io), 41 P3.4/UCA0RXD/UCA0SOMI (io), 42 P3.5/TB0.5 (io), 43 P3.6/TB0.6 (io), 44 P3.7/TB0OUTH/SVMOUT (io), 45 P4.0/PM_UCB1STE/PM_UCA1CLK (io), 46 P4.1/PM_UCB1SIMO/PM_UCB1SDA (io), 47 P4.2/PM_UCB1SOMI/PM_UCB1SCL (io), 48 P4.3/PM_UCB1CLK/PM_UCA1STE (io), 49 DVSS2 (power), 50 DVCC2 (power), 51 P4.4/PM_UCA1TXD/PM_UCA1SIMO (io), 52 P4.5/PM_UCA1RXD/PM_UCA1SOMI (io), 53 P4.6/PM_NONE (io), 54 P4.7/PM_NONE (io), 55 P5.6/TB0.0 (io), 56 P5.7/TB0.1 (io), 57 P7.4/TB0.2 (io), 58 P7.5/TB0.3 (io), 59 P7.6/TB0.4 (io), 60 P7.7/TB0CLK/MCLK (io), 61 VSSU (power), 62 PU.0/DP (io), 63 PUR (io), 64 PU.1/DM (io), 65 VBUS (power), 66 VUSB (power), 67 V18 (power), 68 AVSS2 (power), 69 P5.2/XT2IN (io), 70 P5.3/XT2OUT (io), 71 TEST/SBWTCK (io), 72 PJ.0/TDO (io), 73 PJ.1/TDI/TCLK (io), 74 PJ.2/TMS (io), 75 PJ.3/TCK (io), 76 ~{RST}/NMI/SBWTDIO (io), 77 P6.0/CB0/A0 (io), 78 P6.1/CB1/A1 (io), 79 P6.2/CB2/A2 (io), 80 P6.3/CB3/A3 (io)

## MT3608
designator U?
footprint SOT-363-6 (SOT363 (SC-88, SC-70-6), 6-Leads, Body 2.2x2.2mm (max), Pitch 0.65mm, IPC Medium Density)
pins: 1 SW (power), 2 GND, 3 FB, 4 EN, 5 IN, 6 NC

## MUR820
designator D?
Schottky Diode; Published: 8-Jun-2000; LatestRevisionDate: 17-Jul-2002; LatestRevisionNote: Re-released for DXP Platform.; PackageReference: SMB; Publisher: Altium Limited; Code_JEDEC: DO-214-AA
footprint TO-220AC/HeatSink
pins: 1 K, 2 hidden, 3 A, 4 hidden

## N76E003AT20
designator U?
Supplier 1: Digi-Key; Supplier Part Number 1: 497-8951-ND
footprint TSSOP 20 65P (TSOP, 20-Leads, Body 6.6x4.5mm (max), Pitch 0.65mm, IPC Medium Density)
pins: 1 PWM2/IC6/T0/AIN4/P0.5, 2 TXD/AIN3/P0.6, 3 RXD/AIN2/P0.7, 4 ~{RST}/P2.0, 5 ~{INT0}/OSCIN/AIN1/P3.0, 6 ~{INT1}/AIN0/P1.7, 7 GND, 8 [SDA]/TXD_1/ICPDA/OCDDA/P1.6, 9 VDD, 10 PWM5/IC7/~{SS}/P1.5, 11 P1.4/SDA/FB/PWM1, 12 P1.3/SCL/[STADC], 13 P1.2/PWM0/IC0, 14 P1.1/PWM1/IC1/AIN7/CLO, 15 P1.0/PWM2/IC2/SPCLK, 16 P0.0/PWM3/IC3/MOSI/T1, 17 P0.1/PWM4/IC4/MISO, 18 P0.2/ICPCK/OCDCK/RXD_1/[SCL], 19 P0.3/PWM5/IC5/AIN6, 20 P0.4/AIN5/STADC/PWM3/IC3

## NCP1239
designator U?
footprint SOIC-8 (SOIC, 8-Leads, Body 5.0x4.0mm (max), Pitch 1.27mm, IPC Medium Density)
pins: 1 FAULT, 2 FB, 3 CS, 4 GND, 5 DRV, 6 VCC, 8 HV

## NRF24L01
designator U?
footprint QFN 20-Lead Packet
pins: 0 VSS, 1 CE, 2 CSN, 3 SCK, 4 MOSI, 5 MISO, 6 IRQ, 7 VDD, 8 VSS, 9 XC2, 10 XC1, 11 VDD_PA, 12 ANT1, 13 ANT2, 14 VSS, 15 VDD, 16 IREF, 17 VSS, 18 VDD, 19 DVDD, 20 VSS

## NRF24L01 MODULE
designator U?
footprint NRF24L01
pins: 1 GND, 2 VCC, 3 CE, 4 CSN, 5 SCK, 6 MOSI, 7 MISO, 8 IRQ

## OB2263
designator U?
footprint SOT-23-6 (SOT23, 6-Leads, Body 3.0x3.0mm (max), Pitch 0.95mm, IPC Medium Density)
pins: 1 GND, 2 FB, 3 RI, 4 SENSE, 5 VDD, 6 GATE

## Omron G6B-1114P
designator RL?, comment G6B-1114P
footprint OMRON G6B-1114P
pins: 1 -, 3, 4, 6 +

## Opto 6N137 High Speed
designator U?, comment 6N137
footprint DIP 8 (DIP IC (2.54mm), 8 pins)
pins: 1 NC, 2 A, 3 K, 4 NC, 5 GND, 6 VO, 7 VE, 8 VCC

## Opto MOC3020
designator U?, comment MOC3020
6-Pin DIP Random-Phase Optoisolators Triac Driver Output (250/400 Volt Peak)
footprint DIP-6 (DIP IC (2.54mm), 6 pins)
pins: 1 A, 2 K, 3 NC hidden, 4 T2, 5 NC hidden, 6 T1

## Opto PC817B
designator U?, comment PC817B
footprint DIP 4 (DIP IC (2.54mm), 4 pins)
footprint SOIC-4-GULLWING
footprint SSOP-4
pins: 1 A, 2 K, 3 E, 4 C

## Opto PC900V
designator U?, comment PC900V
footprint DIP 6 (DIP IC (2.54mm), 6 pins)
pins: 1 A, 2 K, 3 E, 4 C, 5 C, 6 C

## PAM8908
designator U?
25mW TRUE CAP FREE STEREO HEADPHONE AMPLIFIER
footprint QFN 16-Lead Plastic (3x3 mm)
pins: 1 INL+, 2 INL-, 3 INR+, 4 INR-, 5 OUTR, 6 G0, 7 G1, 8 HPVSS, 9 CAP-, 10 PGND, 11 CAP+, 12 HPVDD, 13 EN, 14 PVDD, 15 SGND, 16 OUTL

## PCA9306
designator U?
pins: 1 GND, 2 VREF1, 3 SCL1, 4 SDA1, 5 SDA2, 6 SCL2, 7 VREF2, 8 EN

## PDS1-M
designator U?, comment PDS1-Sx-Sx
DC-DC CONVERTER
footprint PDS1-M
pins: 1 GND (power), 2 VIN (power), 4 0V, 5 +Vo

## Phonejack2
designator J?
Jack Socket, 1/4" [6.5mm], Thru-Hole, Vertical, 2-Conductor Open Circuit; PackageDocument: 2003; PCB_Layout: Complies with manufacturer's recommendation.; DrillAndSlotSize: Corresponds to nominal value.; LatestRevisionDate: 15-Jul-2004; LatestRevisionNote: Component Replaced.; DatasheetDocument: 2003; PackageReference: S1VS_SNS; Publisher: Altium Limited; ComponentLink1Description: Manufacturer Link; ComponentLink1URL: http://www.cliffuk.co.uk/
footprint JACK/6-V2 (Connector; Jack Socket, 1/4" [6.5mm], Thru-Hole, 2 Position, Vertical, Body 15.7 x 15.7 x 31 mm (WxTxH))
signal-integrity model JACK Socket
footprint JACK 2MM
pins: 1 T (in) "Tip", 2 S (power) "Sleeve (Ground)"

## PIC16F1823
designator U?
PIC16(L)F1823
footprint DIP 14
footprint SOIC-14 (SOIC, 14-Leads, Body 8.6x3.9mm (max), Pitch 1.27mm, IPC Medium Density)
pins: 1 VDD, 2 RA5, 3 RA4/SDO, 4 ~{MCLR}/RA3/~{SS}, 5 RC5/RX, 6 RC4/TX, 7 RC3/~{SS}, 8 RC2/SDO, 9 RC1/SDA/SDI, 10 RC0/SCL/SCK, 11 RA2/INT, 12 RA1/PGC/RX, 13 RA0/PGD/TX, 14 GND

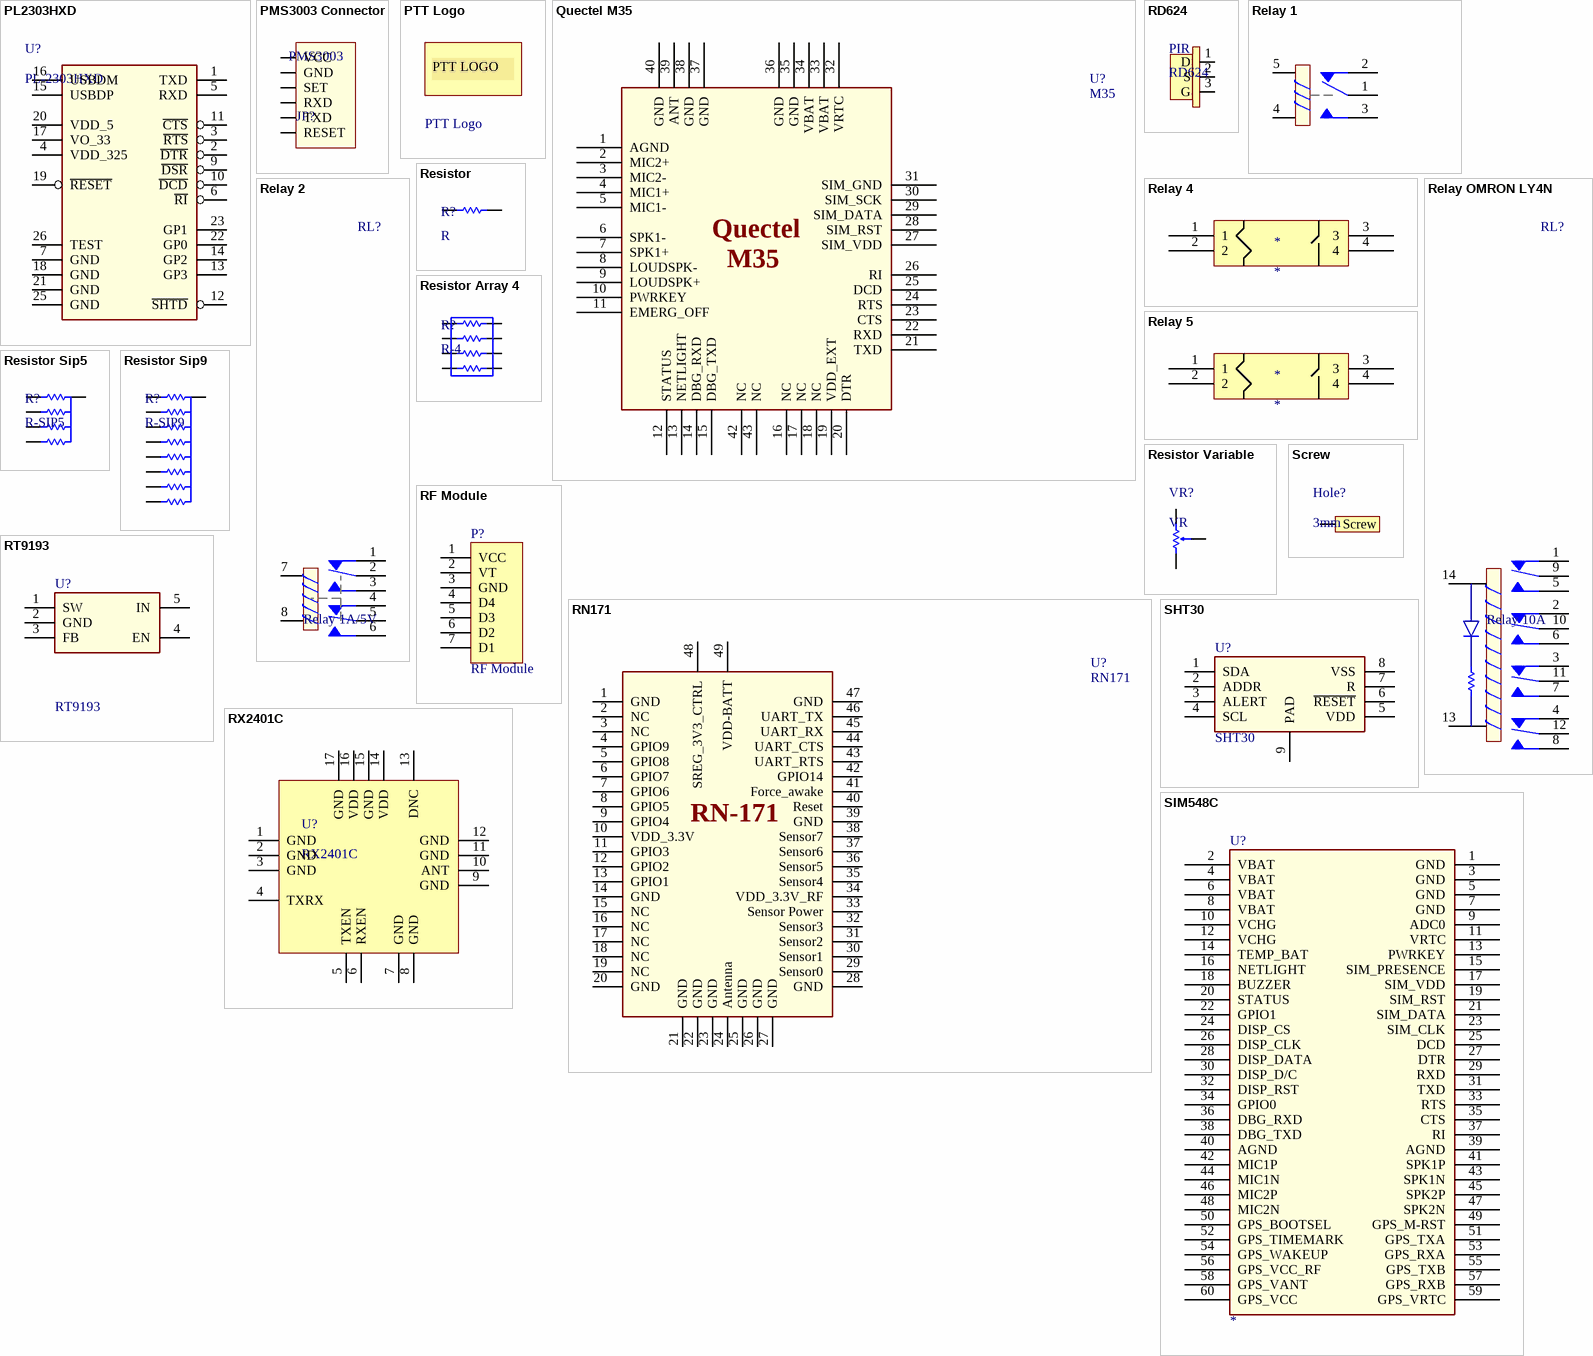
[diagram p11: symbols PL2303HXD to SIM548C]

## PL2303HXD
designator U?, comment PL-2303HXD
USB to Serial Bridge Controller
footprint TSSOP 28 65P (SOP, 28-Leads, Body 10.5x5.6mm (max), Pitch 0.65mm, IPC Medium Density)
pins: 1 TXD, 2 ~{DTR}, 3 ~{RTS}, 4 VDD_325, 5 RXD, 6 ~{RI}, 7 GND (power), 9 ~{DSR}, 10 ~{DCD}, 11 ~{CTS}, 12 ~{SHTD}, 13 GP3, 14 GP2, 15 USBDP, 16 USBDM, 17 VO_33, 18 GND (power), 19 ~{RESET}, 20 VDD_5 (power), 21 GND (power), 22 GP0, 23 GP1, 25 GND, 26 TEST, 27 NC hidden, 28 RESERVED hidden

## PMS3003 Connector
designator JP?, comment PMS3003
Laser pm2.5 sensor; Value: Connector 8
footprint CON Header 6
pins: 1 VCC, 2 GND, 3 SET, 4 RXD, 5 TXD, 6 RESET

## PTT Logo
designator ?
footprint PTT Logo
text: PTT LOGO /

## Quectel M35
designator U?, comment M35
Module GSM/GPRS 850/900/1800/1900MHz
footprint SIM900
pins: 1 AGND, 2 MIC2+, 3 MIC2-, 4 MIC1+, 5 MIC1-, 6 SPK1-, 7 SPK1+, 8 LOUDSPK-, 9 LOUDSPK+, 10 PWRKEY, 11 EMERG_OFF, 12 STATUS (power), 13 NETLIGHT, 14 DBG_RXD, 15 DBG_TXD, 16 NC, 17 NC, 18 NC, 19 VDD_EXT, 20 DTR, 21 TXD, 22 RXD, 23 CTS, 24 RTS, 25 DCD (power), 26 RI, 27 SIM_VDD, 28 SIM_RST, 29 SIM_DATA, 30 SIM_SCK, 31 SIM_GND (power), 32 VRTC, 33 VBAT (power), 34 VBAT (power), 35 GND (power), 36 GND (power), 37 GND (power), 38 GND, 39 ANT, 40 GND, 42 NC, 43 NC
text: Quectel

## RD624
designator PIR
Pyroelectric Infrared Sensor; Published: 8-Jun-2000; LatestRevisionDate: 17-Jul-2002; LatestRevisionNote: Re-released for DXP Platform.; PackageReference: AXIAL-0.3; Publisher: Altium Limited
footprint RD624
pins: 1 D, 2 S, 3 G

## Relay 1
designator RL?, comment Relay 10A/12V
Relay SPDT,10A - 12VDC 5 Pin; Value: Relay SPDT, 10A, 12V
footprint RL_SPDT_10A (Relay SPDT, 5 pin, 10A,W 650mil, L 800mil, H 800mil)
pins: 1, 2, 3, 4, 5

## Relay 2
designator RL?, comment Relay 1A/5V
Relay DPDT; Discription: Relay DPDT 5V, 12V - 1A - 5A; Value: Relay - 5V - 1A
footprint RL_DPDT_1A (Reley DPDT, 8 pin, 1A, W400mil, L800mil,H 300mil)
footprint RL_DPDT_5A (Reley DPDT, 8 pin, 5A, W500mil, L1100mil,H 950mil)
pins: 1, 2, 3, 4, 5, 6, 7, 8

## Relay 4
designator *
footprint Relay4
pins: 1, 2, 3, 4

## Relay 5
designator *
footprint Relay4
pins: 1, 2, 3, 4

## Relay OMRON LY4N
designator RL?, comment Relay 10A
Discription: Relay DPDT 5V, 12V - 1A - 5A; Value: Relay - 5V - 1A
footprint RL_OMRON LY4N (Relay SPDT, 5 pin, 10A,W 650mil, L 800mil, H 800mil)
pins: 1, 2, 3, 4, 5, 6, 7, 8, 9, 10, 11, 12, 13, 14

## Resistor
designator R?, comment R
Resistor; Published: 8-Jun-2000; LatestRevisionDate: 17-Jul-2002; LatestRevisionNote: Re-released for DXP Platform.; PackageReference: AXIAL-0.3; Publisher: Altium Limited
footprint R 1/4W
footprint R 0402 (1005) (Chip Resistor, 2-Leads, Body 1.0x0.5mm, IPC Medium Density)
footprint R 0603 (1608) (Chip Resistor, 2-Leads, Body 1.6x0.8mm, IPC Medium Density)
footprint R 0805 (2012) (Chip Resistor, 2-Leads, Body 2.0x1.3mm, IPC Medium Density)
footprint R 1206 (3216) (Chip Resistor, 2-Leads, Body 3.1x1.6mm, IPC Medium Density)
footprint R 1210 (3225) (Chip Resistor, 2-Leads, Body 3.2x2.5mm, IPC Medium Density)
footprint R 1812 (4832) (Chip Resistor, 2-Leads, Body 4.5x3.2mm, IPC Medium Density)
footprint R 2010 (5025) (Chip Resistor, 2-Leads, Body 5.0x2.5mm, IPC Medium Density)
footprint R 2512 (6432) (Chip Resistor, 2-Leads, Body 6.4x3.2mm, IPC Medium Density)
footprint R 1W
footprint R 1/2W
pins: 1, 2

## Resistor Array 4
designator R?, comment R-4
Resistor Array 4; Published: 8-Jun-2000; LatestRevisionDate: 17-Jul-2002; LatestRevisionNote: Re-released for DXP Platform.; PackageReference: AXIAL-0.3; Publisher: Altium Limited
footprint RN164P (Chip Resistor, 2-Leads, Body 1.6x0.8mm, IPC Medium Density)
pins: 1, 2, 3, 4, 5, 6, 7, 8

## Resistor Sip5
designator R?, comment R-SIP5
Resistor; Published: 8-Jun-2000; LatestRevisionDate: 17-Jul-2002; LatestRevisionNote: Re-released for DXP Platform.; PackageReference: AXIAL-0.3; Publisher: Altium Limited
footprint R SIP5
pins: 1, 2, 3, 4, 5

## Resistor Sip9
designator R?, comment R-SIP9
Resistor; Published: 8-Jun-2000; LatestRevisionDate: 17-Jul-2002; LatestRevisionNote: Re-released for DXP Platform.; PackageReference: AXIAL-0.3; Publisher: Altium Limited
footprint R SIP9
pins: 1, 2, 3, 4, 5, 6, 7, 8, 9

## Resistor Variable
designator VR?, comment VR
Resistor Variable
footprint R VAR A
footprint R VAR B
footprint R VAR C
footprint R VAR D
footprint R VAR_H (16mm Single Horizontal PotentionMeter, 5mm Pitch)
footprint R VAR E
pins: 1, 2, 3

## RF Module
designator P?
LatestRevisionDate: 17-Jul-2002; LatestRevisionNote: Re-released for DXP Platform.; Publisher: Altium Limited
footprint RF Module
pins: 1 VCC, 2 VT, 3 GND, 4 D4, 5 D3, 6 D2, 7 D1

## RN171
designator U?
RN-171 802.11 b/g Wireless LAN Module
footprint RN171 (RN-171 802.11 b/g Wireless LAN Module)
pins: 1 GND, 2 NC, 3 NC, 4 GPIO9, 5 GPIO8, 6 GPIO7, 7 GPIO6, 8 GPIO5, 9 GPIO4, 10 VDD_3.3V, 11 GPIO3, 12 GPIO2, 13 GPIO1, 14 GND, 15 NC, 16 NC, 17 NC, 18 NC, 19 NC, 20 GND, 21 GND, 22 GND, 23 GND, 24 Antenna, 25 GND, 26 GND, 27 GND, 28 GND, 29 Sensor0 (power), 30 Sensor1 (power), 31 Sensor2 (power), 32 Sensor3 (power), 33 Sensor Power, 34 VDD_3.3V_RF, 35 Sensor4, 36 Sensor5, 37 Sensor6, 38 Sensor7, 39 GND (power), 40 Reset, 41 Force_awake, 42 GPIO14, 43 UART_RTS, 44 UART_CTS, 45 UART_RX (power), 46 UART_TX (power), 47 GND, 48 SREG_3V3_CTRL, 49 VDD-BATT
text: RN-171

## RT9193
designator U?
footprint SOT-23-5 (SOT23, 5-Leads, Body 3.0x3.0mm (max), Pitch 0.95mm, IPC Medium Density)
pins: 1 SW (power), 2 GND, 3 FB, 4 EN, 5 IN

## RX2401C
designator U?
footprint QFN 16-Lead Plastic (3x3 mm)
pins: 1 GND, 2 GND, 3 GND, 4 TXRX, 5 TXEN, 6 RXEN, 7 GND, 8 GND, 9 GND, 10 ANT, 11 GND, 12 GND, 13 DNC, 14 VDD, 15 GND, 16 VDD, 17 GND

## Screw
designator Hole?, comment 3mm
footprint SCREW/3M
footprint SCREW/3M/7M
footprint SCREW/5M
footprint SCREW/3M/6M
pins: 1 Screw

## SHT30
designator U?
Humidity and Temperature Sensor
footprint SHT3X
pins: 1 SDA, 2 ADDR, 3 ALERT, 4 SCL, 5 VDD, 6 ~{RESET}, 7 R, 8 VSS, 9 PAD

## SIM548C
designator U?
pins: 1 GND, 2 VBAT, 3 GND, 4 VBAT, 5 GND, 6 VBAT, 7 GND, 8 VBAT, 9 ADC0, 10 VCHG, 11 VRTC, 12 VCHG, 13 PWRKEY, 14 TEMP_BAT, 15 SIM_PRESENCE, 16 NETLIGHT, 17 SIM_VDD, 18 BUZZER, 19 SIM_RST, 20 STATUS, 21 SIM_DATA, 22 GPIO1, 23 SIM_CLK, 24 DISP_CS, 25 DCD, 26 DISP_CLK, 27 DTR, 28 DISP_DATA, 29 RXD, 30 DISP_D/C, 31 TXD, 32 DISP_RST, 33 RTS, 34 GPIO0, 35 CTS, 36 DBG_RXD, 37 RI, 38 DBG_TXD, 39 AGND, 40 AGND, 41 SPK1P, 42 MIC1P, 43 SPK1N, 44 MIC1N, 45 SPK2P, 46 MIC2P, 47 SPK2N, 48 MIC2N, 49 GPS_M-RST, 50 GPS_BOOTSEL, 51 GPS_TXA, 52 GPS_TIMEMARK, 53 GPS_RXA, 54 GPS_WAKEUP, 55 GPS_TXB, 56 GPS_VCC_RF, 57 GPS_RXB, 58 GPS_VANT, 59 GPS_VRTC, 60 GPS_VCC

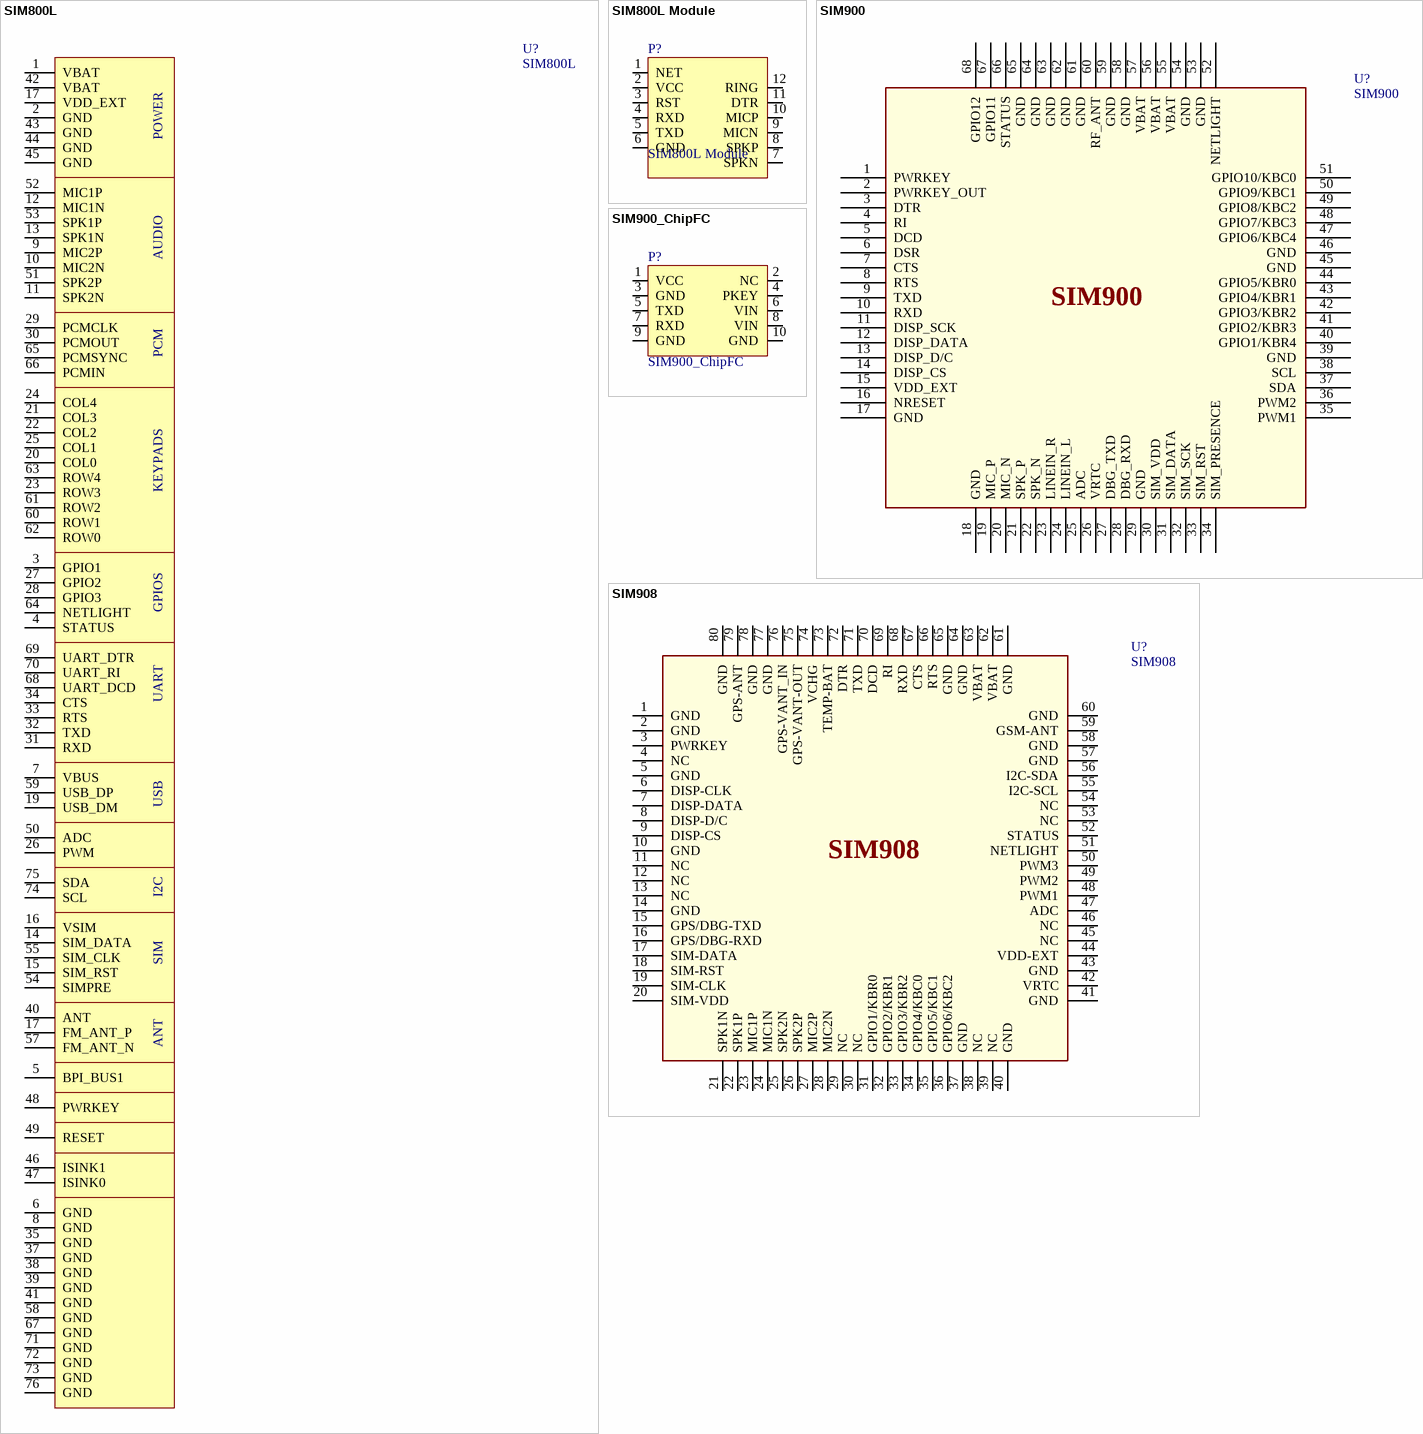
[diagram p12: symbols SIM800L to SIM908]

## SIM800L
designator U?
Module GSM/GPRS 850/900/1800/1900MHz & GPS
footprint SIM800L
pins: 1 VBAT, 2 GND, 3 GPIO1, 4 STATUS, 5 BPI_BUS1, 6 GND, 7 VBUS, 8 GND, 9 MIC2P, 10 MIC2N, 11 SPK2N, 12 MIC1N, 13 SPK1N, 14 SIM_DATA, 15 SIM_RST, 16 VSIM, 17 VDD_EXT, 17 FM_ANT_P, 19 USB_DM, 20 COL0, 21 COL3, 22 COL2, 23 ROW3, 24 COL4, 25 COL1, 26 PWM, 27 GPIO2, 28 GPIO3, 29 PCMCLK, 30 PCMOUT, 31 RXD, 32 TXD, 33 RTS, 34 CTS, 35 GND, 37 GND, 38 GND, 39 GND, 40 ANT, 41 GND, 42 VBAT, 43 GND, 44 GND, 45 GND, 46 ISINK1, 47 ISINK0, 48 PWRKEY, 49 RESET, 50 ADC, 51 SPK2P, 52 MIC1P, 53 SPK1P, 54 SIMPRE, 55 SIM_CLK, 57 FM_ANT_N, 58 GND, 59 USB_DP, 60 ROW1, 61 ROW2, 62 ROW0, 63 ROW4, 64 NETLIGHT, 65 PCMSYNC, 66 PCMIN, 67 GND, 68 UART_DCD, 69 UART_DTR, 70 UART_RI, 71 GND, 72 GND, 73 GND, 74 SCL, 75 SDA, 76 GND
text: POWER; AUDIO; PCM; KEYPADS; GPIOS; UART; USB; I2C; SIM

## SIM800L Module
designator P?
Header, 5-Pin, Dual row; LatestRevisionDate: 17-Jul-2002; LatestRevisionNote: Re-released for DXP Platform.; Publisher: Altium Limited
footprint SIM800L PINOUT
pins: 1 NET, 2 VCC, 3 RST, 4 RXD, 5 TXD, 6 GND, 7 SPKN, 8 SPKP, 9 MICN, 10 MICP, 11 DTR, 12 RING

## SIM900
designator U?
Module GSM/GPRS 850/900/1800/1900MHz
footprint SIM900
pins: 1 PWRKEY, 2 PWRKEY_OUT, 3 DTR, 4 RI, 5 DCD, 6 DSR, 7 CTS, 8 RTS, 9 TXD, 10 RXD, 11 DISP_SCK, 12 DISP_DATA, 13 DISP_D/C, 14 DISP_CS, 15 VDD_EXT, 16 NRESET, 17 GND (power), 18 GND (power), 19 MIC_P, 20 MIC_N, 21 SPK_P, 22 SPK_N, 23 LINEIN_R, 24 LINEIN_L, 25 ADC, 26 VRTC, 27 DBG_TXD, 28 DBG_RXD, 29 GND (power), 30 SIM_VDD, 31 SIM_DATA, 32 SIM_SCK, 33 SIM_RST, 34 SIM_PRESENCE, 35 PWM1, 36 PWM2, 37 SDA, 38 SCL, 39 GND (power), 40 GPIO1/KBR4, 41 GPIO2/KBR3, 42 GPIO3/KBR2, 43 GPIO4/KBR1, 44 GPIO5/KBR0, 45 GND (power), 46 GND (power), 47 GPIO6/KBC4, 48 GPIO7/KBC3, 49 GPIO8/KBC2, 50 GPIO9/KBC1, 51 GPIO10/KBC0, 52 NETLIGHT, 53 GND (power), 54 GND (power), 55 VBAT (power), 56 VBAT (power), 57 VBAT (power), 58 GND (power), 59 GND (power), 60 RF_ANT, 61 GND (power), 62 GND (power), 63 GND (power), 64 GND (power), 65 GND (power), 66 STATUS, 67 GPIO11, 68 GPIO12

## SIM900_ChipFC
designator P?
Header, 5-Pin, Dual row; LatestRevisionDate: 17-Jul-2002; LatestRevisionNote: Re-released for DXP Platform.; Publisher: Altium Limited
footprint SIM900_ChipFC
pins: 1 VCC, 2 NC, 3 GND, 4 PKEY, 5 TXD, 6 VIN, 7 RXD, 8 VIN, 9 GND, 10 GND

## SIM908
designator U?
Module GSM/GPRS 850/900/1800/1900MHz & GPS
footprint SIM908
pins: 1 GND, 2 GND, 3 PWRKEY, 4 NC, 5 GND, 6 DISP-CLK, 7 DISP-DATA, 8 DISP-D/C, 9 DISP-CS, 10 GND, 11 NC, 12 NC, 13 NC, 14 GND, 15 GPS/DBG-TXD, 16 GPS/DBG-RXD, 17 SIM-DATA, 18 SIM-RST (power), 19 SIM-CLK (power), 20 SIM-VDD, 21 SPK1N, 22 SPK1P, 23 MIC1P, 24 MIC1N, 25 SPK2N, 26 SPK2P, 27 MIC2P, 28 MIC2N, 29 NC (power), 30 NC, 31 GPIO1/KBR0, 32 GPIO2/KBR1, 33 GPIO3/KBR2, 34 GPIO4/KBC0, 35 GPIO5/KBC1, 36 GPIO6/KBC2, 37 GND, 38 NC, 39 NC (power), 40 GND, 41 GND, 42 VRTC, 43 GND, 44 VDD-EXT, 45 NC (power), 46 NC (power), 47 ADC, 48 PWM1, 49 PWM2, 50 PWM3, 51 NETLIGHT, 52 STATUS, 53 NC (power), 54 NC (power), 55 I2C-SCL (power), 56 I2C-SDA (power), 57 GND (power), 58 GND (power), 59 GSM-ANT (power), 60 GND, 61 GND (power), 62 VBAT (power), 63 VBAT (power), 64 GND (power), 65 GND (power), 66 RTS, 67 CTS, 68 RXD, 69 RI (power), 70 DCD (power), 71 TXD (power), 72 DTR (power), 73 TEMP-BAT (power), 74 VCHG, 75 GPS-VANT-OUT, 76 GPS-VANT_IN, 77 GND, 78 GND, 79 GPS-ANT, 80 GND

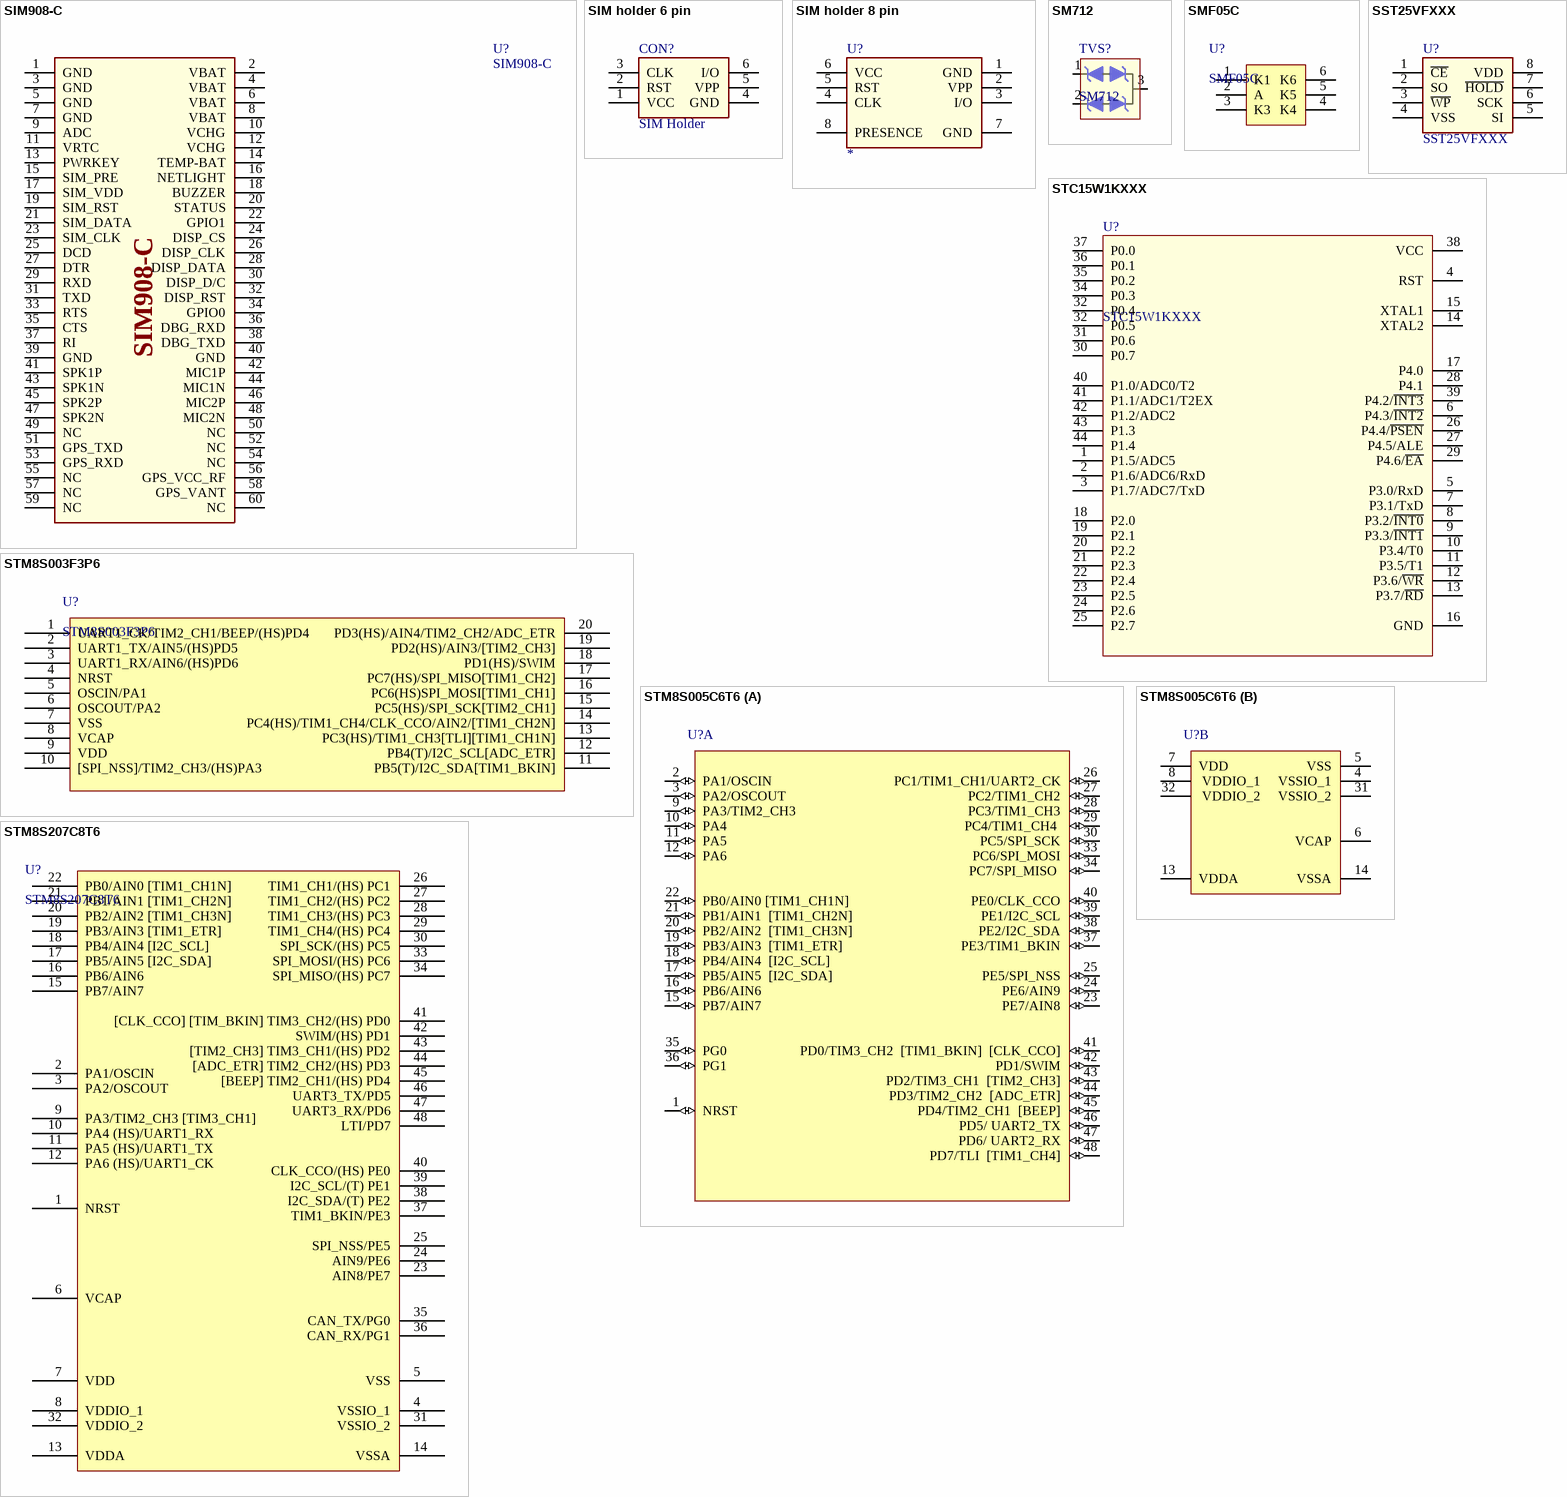
[diagram p13: symbols SIM908-C to STM8S207C8T6]

## SIM908-C
designator U?
Module GSM/GPRS 850/900/1800/1900MHz & GPS
footprint SIM908-C
pins: 1 GND, 2 VBAT (power), 3 GND, 4 VBAT (power), 5 GND, 6 VBAT (power), 7 GND, 8 VBAT (power), 9 ADC, 10 VCHG, 11 VRTC, 12 VCHG, 13 PWRKEY, 14 TEMP-BAT (power), 15 SIM_PRE, 16 NETLIGHT, 17 SIM_VDD, 18 BUZZER, 19 SIM_RST (power), 20 STATUS, 21 SIM_DATA, 22 GPIO1, 23 SIM_CLK (power), 24 DISP_CS, 25 DCD (power), 26 DISP_CLK, 27 DTR (power), 28 DISP_DATA, 29 RXD, 30 DISP_D/C, 31 TXD (power), 32 DISP_RST, 33 RTS, 34 GPIO0, 35 CTS, 36 DBG_RXD, 37 RI (power), 38 DBG_TXD, 39 GND (power), 40 GND, 41 SPK1P, 42 MIC1P, 43 SPK1N, 44 MIC1N, 45 SPK2P, 46 MIC2P, 47 SPK2N, 48 MIC2N, 49 NC (power), 50 NC, 51 GPS_TXD, 52 NC, 53 GPS_RXD, 54 NC, 55 NC, 56 GPS_VCC_RF, 57 NC, 58 GPS_VANT, 59 NC, 60 NC

## SIM holder 6 pin
designator CON?, comment SIM Holder
SIM Card holder, 6 pins
footprint CON SIM Holder C707 (SIM Holder,  6 pins)
footprint CON SIM Holder FMS006-2600 (SIM Holder,  6 pins)
footprint Socket MicroSIM 6P PUSH (SIM Holder,  6 pins)
pins: 1 VCC (power), 2 RST, 3 CLK, 4 GND (power), 5 VPP, 6 I/O

## SIM holder 8 pin
designator U?
pins: 1 GND (power), 2 VPP, 3 I/O, 4 CLK, 5 RST, 6 VCC (power), 7 GND (power), 8 PRESENCE

## SM712
designator TVS?
Published: 8-Jun-2000; LatestRevisionDate: 17-Jul-2002; LatestRevisionNote: Re-released for DXP Platform.; PackageVersion: Sep-1996; PackageReference: SMC; Publisher: Altium Limited; Code_JEDEC: DO-214-AB
footprint SOT-23 (SOT23, 3-Leads, Body 3.0x2.5mm (max), Pitch 0.95mm, IPC Medium Density)
pins: 1, 2, 3

## SMF05C
designator U?
5-Line Transient Voltage Suppressor Array
footprint SOT-363-6 (SOT363 (SC-88, SC-70-6), 6-Leads, Body 2.2x2.2mm (max), Pitch 0.65mm, IPC Medium Density)
pins: 1 K1, 2 A, 3 K3, 4 K4, 5 K5, 6 K6

## SST25VFXXX
designator U?
SPI Serial Flash
footprint SOIC-8 (SOIC, 8-Leads, Body 5.0x4.0mm (max), Pitch 1.27mm, IPC Medium Density)
footprint DIP 8 (DIP IC (2.54mm), 8 pins)
pins: 1 ~{CE}, 2 SO, 3 ~{WP}, 4 VSS, 5 SI, 6 SCK, 7 ~{HOLD}, 8 VDD

## STC15W1KXXX
designator U?
STC Microcontroller
footprint DIP 40
pins: 1 P1.5/ADC5, 2 P1.6/ADC6/RxD, 3 P1.7/ADC7/TxD, 4 RST, 5 P3.0/RxD, 6 P4.3/~{INT2}, 7 P3.1/TxD, 8 P3.2/~{INT0}, 9 P3.3/~{INT1}, 10 P3.4/T0, 11 P3.5/T1, 12 P3.6/~{WR}, 13 P3.7/~{RD}, 14 XTAL2, 15 XTAL1, 16 GND, 17 P4.0, 18 P2.0, 19 P2.1, 20 P2.2, 21 P2.3, 22 P2.4, 23 P2.5, 24 P2.6, 25 P2.7, 26 P4.4/~{PSEN}, 27 P4.5/ALE, 28 P4.1, 29 P4.6/~{EA}, 30 P0.7, 31 P0.6, 32 P0.5, 32 P0.4, 34 P0.3, 35 P0.2, 36 P0.1, 37 P0.0, 38 VCC, 39 P4.2/~{INT3}, 40 P1.0/ADC0/T2, 41 P1.1/ADC1/T2EX, 42 P1.2/ADC2, 43 P1.3, 44 P1.4

## STM8S003F3P6
designator U?
Value line, 16-MHz STM8S 8-bit MCU, 8-Kbyte Flash memory, / 128-byte data EEPROM, 10-bit ADC, 3 timers, UART, SPI, I²C; Supplier 1: Digi-Key; Supplier Part Number 1: 497-8951-ND
footprint TSSOP 20 65P (TSOP, 20-Leads, Body 6.6x4.5mm (max), Pitch 0.65mm, IPC Medium Density)
pins: 1 UART1_CK/TIM2_CH1/BEEP/(HS)PD4, 2 UART1_TX/AIN5/(HS)PD5, 3 UART1_RX/AIN6/(HS)PD6, 4 NRST, 5 OSCIN/PA1, 6 OSCOUT/PA2, 7 VSS, 8 VCAP, 9 VDD, 10 [SPI_NSS]/TIM2_CH3/(HS)PA3, 11 PB5(T)/I2C_SDA[TIM1_BKIN], 12 PB4(T)/I2C_SCL[ADC_ETR], 13 PC3(HS)/TIM1_CH3[TLI][TIM1_CH1N], 14 PC4(HS)/TIM1_CH4/CLK_CCO/AIN2/[TIM1_CH2N], 15 PC5(HS)/SPI_SCK[TIM2_CH1], 16 PC6(HS)SPI_MOSI[TIM1_CH1], 17 PC7(HS)/SPI_MISO[TIM1_CH2], 18 PD1(HS)/SWIM, 19 PD2(HS)/AIN3/[TIM2_CH3], 20 PD3(HS)/AIN4/TIM2_CH2/ADC_ETR

## STM8S005C6T6
designator U?
STM8S ARM-based EnergyLite 8-bit MCU, 32 kB Flash, 2 kB Internal RAM, -40 to +85°C Temperature, 48-pin LQFP, Tray; DatasheetVersion: rev6, Jan-2012; PackageVersion: rev13, Apr-2011; PackageReference: LQFP48; PackageDescription: 48-Pin Low-Profile Quad Flat Pack, 7 x 7 mm Body, 0.5 mm Pitch (LQFP48); ComponentLink1Description: Manufacturer URL; ComponentLink1URL: http://www.st.com/; ComponentLink2Description: STM32L151/152 Datasheet; ComponentLink2URL: http://www.st.com/internet/com/TECHNICAL_RESOURCES/TECHNICAL_LITERATURE/DATASHEET/CD00277537.pdf; ComponentLink3Description: STM32 L1 Family Web Page; ComponentLink3URL: http://www.st.com/internet/mcu/subclass/1376.jsp
footprint LQFP48_N (Thin QFP, 48-Leads, Body 7x7mm, Pitch 0.5mm, IPC Medium Density)
footprint LQFP48_L (Thin QFP, 48-Leads, Body 7x7mm, Pitch 0.5mm, IPC High Density)
footprint LQFP48_M (Thin QFP, 48-Leads, Body 7x7mm, Pitch 0.5mm, IPC Low Density)
part A pins: 1 NRST (io), 2 PA1/OSCIN (io), 3 PA2/OSCOUT (io), 9 PA3/TIM2_CH3 (io), 10 PA4 (io), 11 PA5 (io), 12 PA6 (io), 15 PB7/AIN7 (io), 16 PB6/AIN6 (io), 17 PB5/AIN5  [I2C_SDA] (io), 18 PB4/AIN4  [I2C_SCL] (io), 19 PB3/AIN3  [TIM1_ETR] (io), 20 PB2/AIN2  [TIM1_CH3N] (io), 21 PB1/AIN1  [TIM1_CH2N] (io), 22 PB0/AIN0 [TIM1_CH1N] (io), 23 PE7/AIN8 (io), 24 PE6/AIN9 (io), 25  PE5/SPI_NSS (io), 26 PC1/TIM1_CH1/UART2_CK (io), 27 PC2/TIM1_CH2 (io), 28 PC3/TIM1_CH3 (io), 29 PC4/TIM1_CH4  (io), 30 PC5/SPI_SCK (io), 33 PC6/SPI_MOSI (io), 34 PC7/SPI_MISO  (io), 35 PG0 (io), 36 PG1 (io), 37 PE3/TIM1_BKIN (io), 38 PE2/I2C_SDA (io), 39 PE1/I2C_SCL (io), 40 PE0/CLK_CCO (io), 41 PD0/TIM3_CH2  [TIM1_BKIN]  [CLK_CCO] (io), 42 PD1/SWIM (io), 43 PD2/TIM3_CH1  [TIM2_CH3] (io), 44  PD3/TIM2_CH2  [ADC_ETR] (io), 45 PD4/TIM2_CH1  [BEEP] (io), 46 PD5/ UART2_TX (io), 47  PD6/ UART2_RX (io), 48 PD7/TLI  [TIM1_CH4] (io)
part B pins: 4 VSSIO_1 (power), 5 VSS (power), 6 VCAP (power), 7 VDD (power), 8  VDDIO_1 (power), 13 VDDA (power), 14 VSSA (power), 31 VSSIO_2 (power), 32  VDDIO_2 (power)

## STM8S207C8T6
designator U?
Supplier 1: Digi-Key; Supplier Part Number 1: 497-8951-ND
footprint LQFP48_L (Thin QFP, 48-Leads, Body 7x7mm, Pitch 0.5mm, IPC High Density)
footprint LQFP48_M (Thin QFP, 48-Leads, Body 7x7mm, Pitch 0.5mm, IPC Low Density)
footprint LQFP48_N (Thin QFP, 48-Leads, Body 7x7mm, Pitch 0.5mm, IPC Medium Density)
pins: 1 NRST, 2 PA1/OSCIN, 3 PA2/OSCOUT, 4 VSSIO_1, 5 VSS, 6 VCAP, 7 VDD, 8 VDDIO_1, 9 PA3/TIM2_CH3 [TIM3_CH1], 10 PA4 (HS)/UART1_RX, 11 PA5 (HS)/UART1_TX, 12 PA6 (HS)/UART1_CK, 13 VDDA, 14 VSSA, 15 PB7/AIN7, 16 PB6/AIN6, 17 PB5/AIN5 [I2C_SDA], 18 PB4/AIN4 [I2C_SCL], 19 PB3/AIN3 [TIM1_ETR], 20 PB2/AIN2 [TIM1_CH3N], 21 PB1/AIN1 [TIM1_CH2N], 22 PB0/AIN0 [TIM1_CH1N], 23 AIN8/PE7, 24 AIN9/PE6, 25 SPI_NSS/PE5, 26 TIM1_CH1/(HS) PC1, 27 TIM1_CH2/(HS) PC2, 28 TIM1_CH3/(HS) PC3, 29 TIM1_CH4/(HS) PC4, 30 SPI_SCK/(HS) PC5, 31 VSSIO_2, 32 VDDIO_2, 33 SPI_MOSI/(HS) PC6, 34 SPI_MISO/(HS) PC7, 35 CAN_TX/PG0, 36 CAN_RX/PG1, 37 TIM1_BKIN/PE3, 38 I2C_SDA/(T) PE2, 39 I2C_SCL/(T) PE1, 40 CLK_CCO/(HS) PE0, 41 [CLK_CCO] [TIM_BKIN] TIM3_CH2/(HS) PD0, 42 SWIM/(HS) PD1, 43 [TIM2_CH3] TIM3_CH1/(HS) PD2, 44 [ADC_ETR] TIM2_CH2/(HS) PD3, 45 [BEEP] TIM2_CH1/(HS) PD4, 46 UART3_TX/PD5, 47 UART3_RX/PD6, 48 LTI/PD7

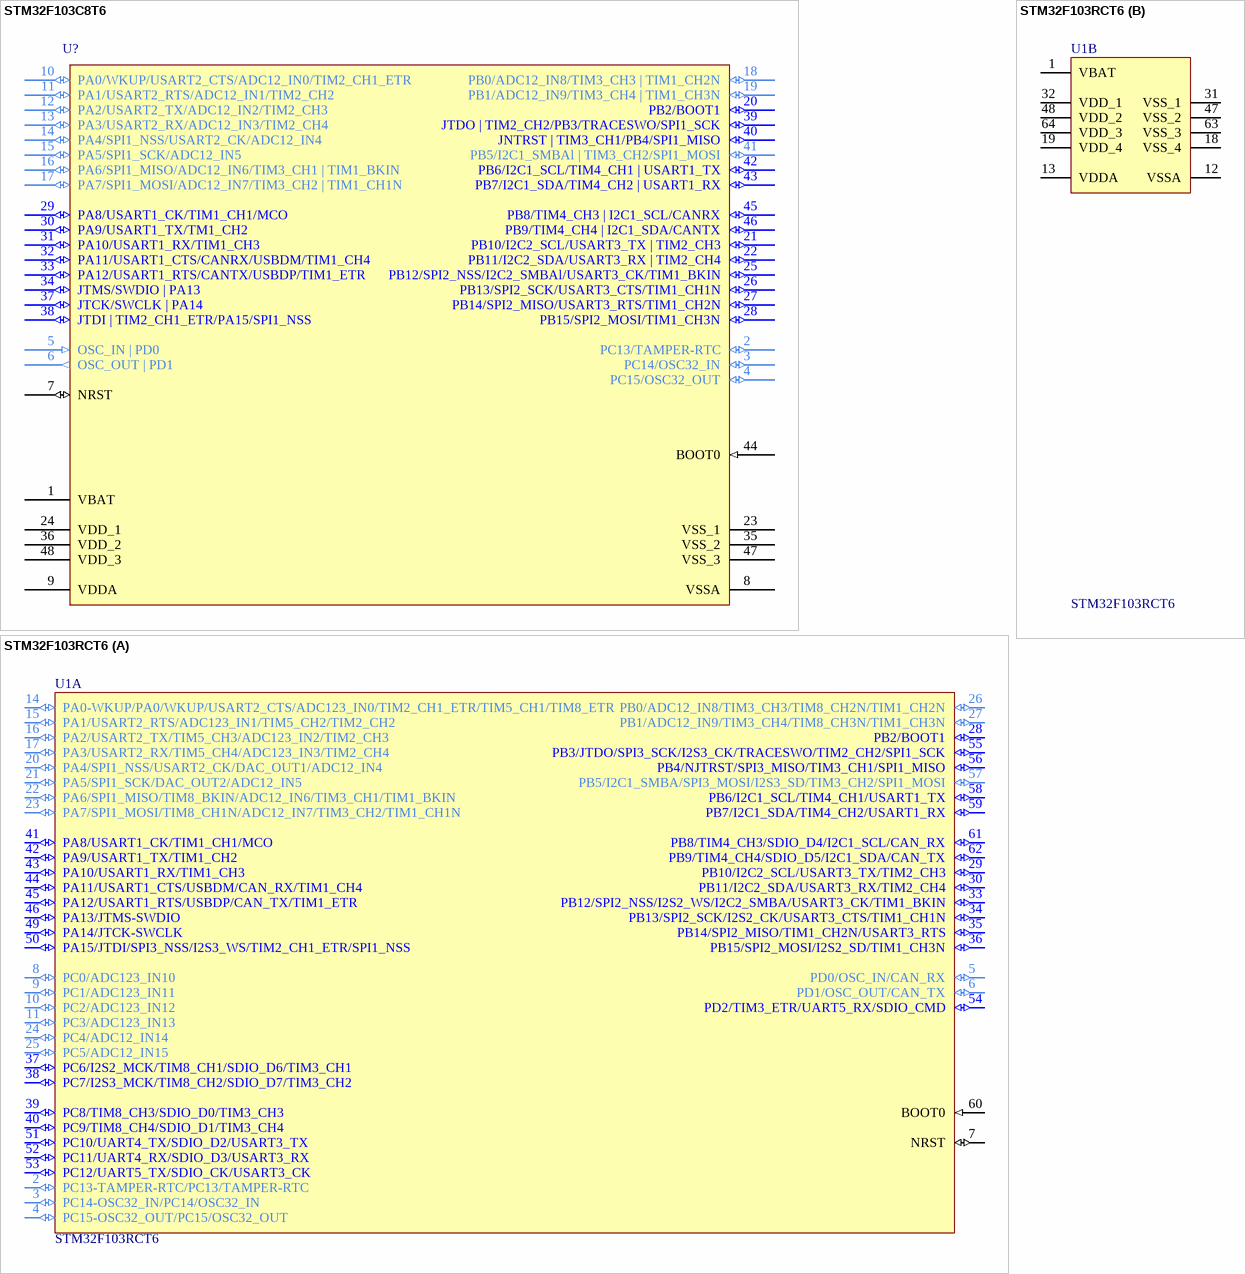
[diagram p14: symbols STM32F103C8T6 to STM32F103RCT6]

## STM32F103C8T6
designator U?
STM32 ARM-based 32-bit MCU with 64 Kbytes Flash, 48-pin LQFP, Industrial Temperature; Published: 30-May-2008; DatasheetVersion: rev6, Mar-2008; PackageVersion: Mar-2008; PackageReference: LQFP48; Publisher: Altium Limited; PackageDescription: 48-Pin Low-Profile Quad Flat Pack, 7 x 7 mm Body, 0.5 mm Pitch (LQFP48); ComponentLink1Description: Manufacturer Link; ComponentLink1URL: www.st.com/stm32; ComponentLink2Description: Datasheet; ComponentLink2URL: http://www.st.com/stonline/products/literature/ds/13587.pdf
footprint LQFP48_N (Thin QFP, 48-Leads, Body 7x7mm, Pitch 0.5mm, IPC Medium Density)
footprint LQFP48_L (Thin QFP, 48-Leads, Body 7x7mm, Pitch 0.5mm, IPC High Density)
footprint LQFP48_M (Thin QFP, 48-Leads, Body 7x7mm, Pitch 0.5mm, IPC Low Density)
pins: 1 VBAT (power), 2 PC13/TAMPER-RTC (io), 3 PC14/OSC32_IN (io), 4 PC15/OSC32_OUT (io), 5 OSC_IN | PD0 (in), 6 OSC_OUT | PD1 (out), 7 NRST (io), 8 VSSA (power), 9 VDDA (power), 10 PA0/WKUP/USART2_CTS/ADC12_IN0/TIM2_CH1_ETR (io), 11 PA1/USART2_RTS/ADC12_IN1/TIM2_CH2 (io), 12 PA2/USART2_TX/ADC12_IN2/TIM2_CH3 (io), 13 PA3/USART2_RX/ADC12_IN3/TIM2_CH4 (io), 14 PA4/SPI1_NSS/USART2_CK/ADC12_IN4 (io), 15 PA5/SPI1_SCK/ADC12_IN5 (io), 16 PA6/SPI1_MISO/ADC12_IN6/TIM3_CH1 | TIM1_BKIN (io), 17 PA7/SPI1_MOSI/ADC12_IN7/TIM3_CH2 | TIM1_CH1N (io), 18 PB0/ADC12_IN8/TIM3_CH3 | TIM1_CH2N (io), 19 PB1/ADC12_IN9/TIM3_CH4 | TIM1_CH3N (io), 20 PB2/BOOT1 (io), 21 PB10/I2C2_SCL/USART3_TX | TIM2_CH3 (io), 22 PB11/I2C2_SDA/USART3_RX | TIM2_CH4 (io), 23 VSS_1 (power), 24 VDD_1 (power), 25 PB12/SPI2_NSS/I2C2_SMBAl/USART3_CK/TIM1_BKIN (io), 26 PB13/SPI2_SCK/USART3_CTS/TIM1_CH1N (io), 27 PB14/SPI2_MISO/USART3_RTS/TIM1_CH2N (io), 28 PB15/SPI2_MOSI/TIM1_CH3N (io), 29 PA8/USART1_CK/TIM1_CH1/MCO  (io), 30 PA9/USART1_TX/TM1_CH2 (io), 31 PA10/USART1_RX/TIM1_CH3 (io), 32 PA11/USART1_CTS/CANRX/USBDM/TIM1_CH4 (io), 33 PA12/USART1_RTS/CANTX/USBDP/TIM1_ETR (io), 34 JTMS/SWDIO | PA13 (io), 35 VSS_2 (power), 36 VDD_2 (power), 37 JTCK/SWCLK | PA14 (io), 38 JTDI | TIM2_CH1_ETR/PA15/SPI1_NSS (io), 39 JTDO | TIM2_CH2/PB3/TRACESWO/SPI1_SCK (io), 40 JNTRST | TIM3_CH1/PB4/SPI1_MISO (io), 41 PB5/I2C1_SMBAl | TIM3_CH2/SPI1_MOSI (io), 42 PB6/I2C1_SCL/TIM4_CH1 | USART1_TX (io), 43 PB7/I2C1_SDA/TIM4_CH2 | USART1_RX (io), 44 BOOT0 (in), 45 PB8/TIM4_CH3 | I2C1_SCL/CANRX (io), 46 PB9/TIM4_CH4 | I2C1_SDA/CANTX (io), 47 VSS_3 (power), 48 VDD_3 (power)